# Altium schematic symbol library MCU_ST_STM32U5.SchLib: 162 symbols (part 3 of 5)
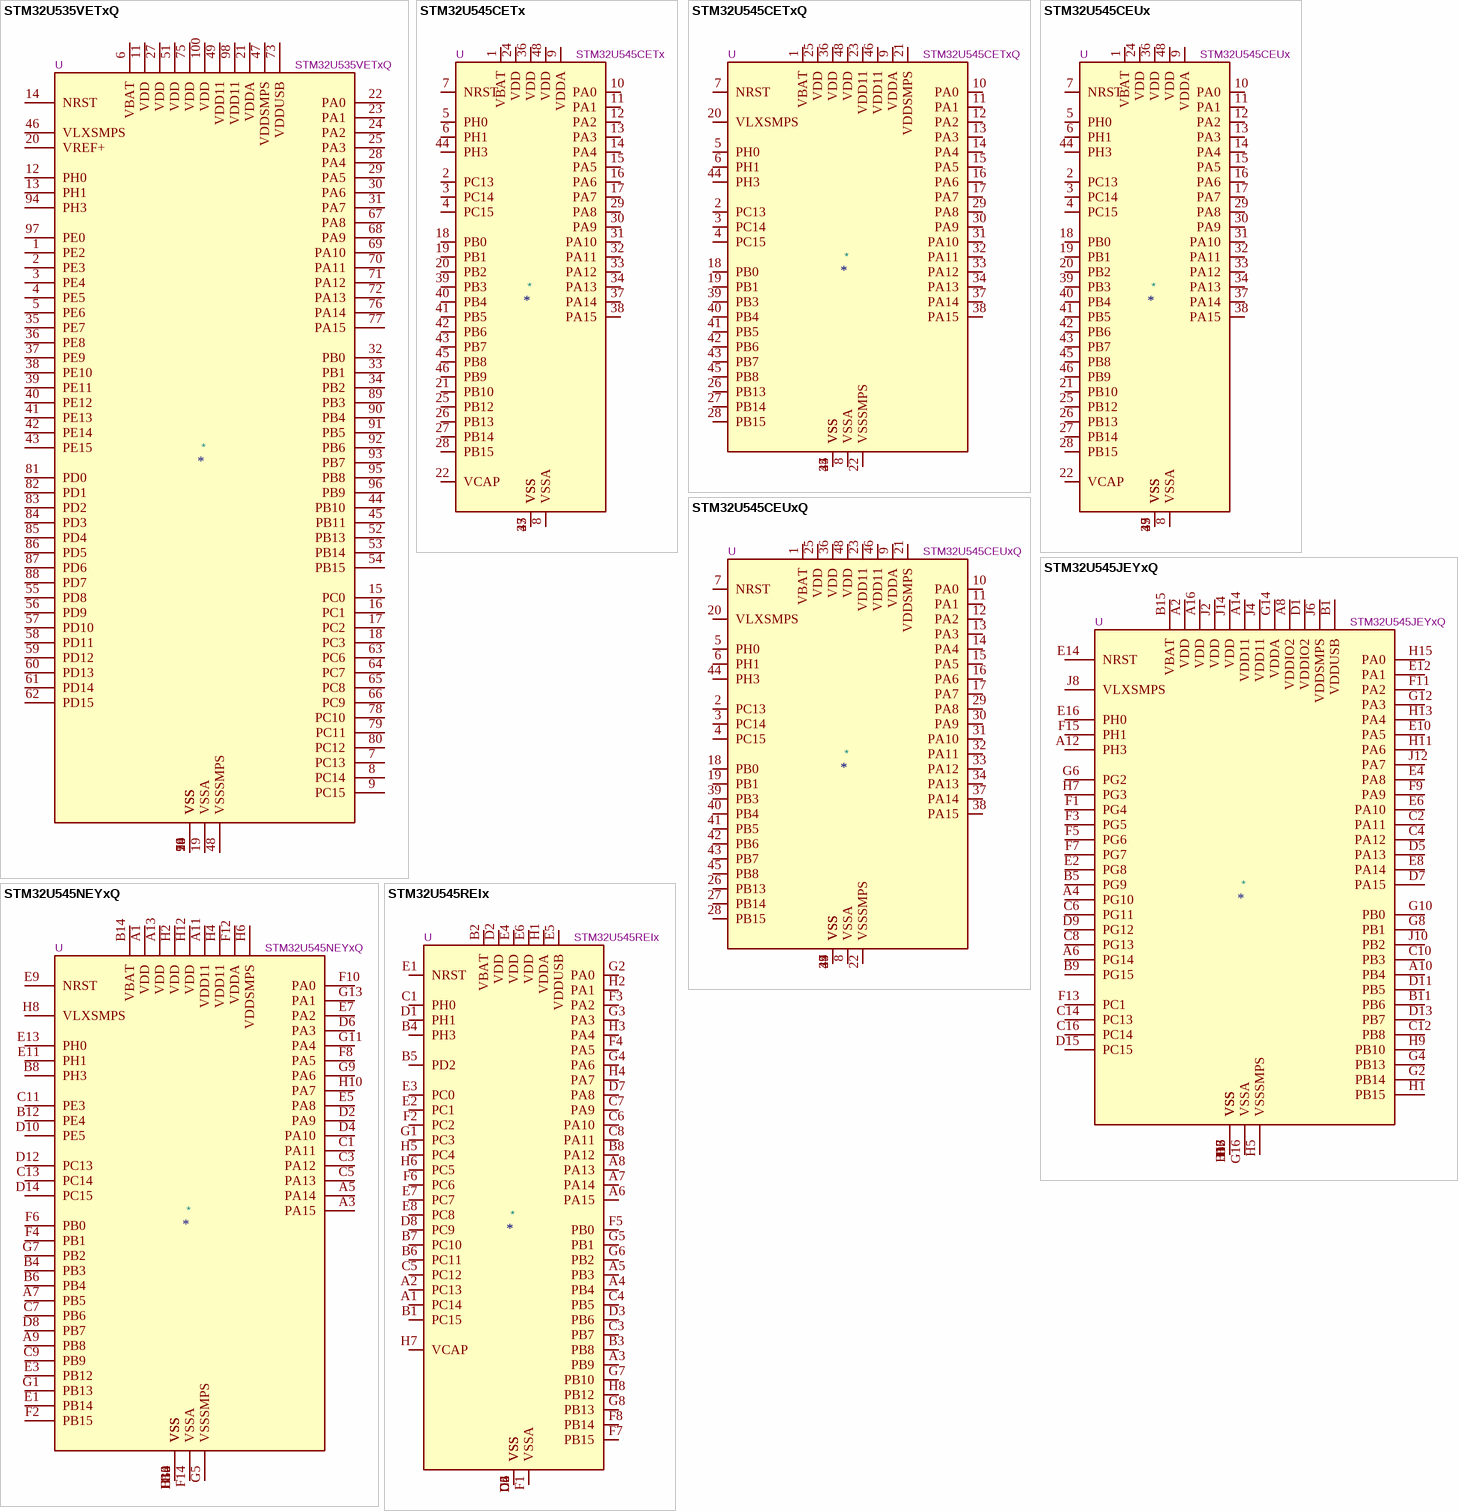
[diagram p42: symbols STM32U535VETxQ to STM32U545REIx]

## STM32U545CETxQ
designator *  value STM32U545CETxQ  Reference: U
STMicroelectronics Arm Cortex-M33 MCU, 512KB flash, 274KB RAM, 33 GPIO, LQFP48; ki_keywords: Arm Cortex-M33 STM32U5 STM32U5x5; ki_fp_filters: LQFP*7x7mm*P0.5mm*; Footprint: Package_QFP:LQFP-48_7x7mm_P0.5mm; Datasheet: https://www.st.com/resource/en/datasheet/stm32u545ce.pdf; Description_: STMicroelectronics Arm Cortex-M33 MCU, 512KB flash, 274KB RAM, 33 GPIO, LQFP48
pins: 1 VBAT, 2 PC13, 3 PC14, 4 PC15, 5 PH0, 6 PH1, 7 NRST, 8 VSSA, 9 VDDA, 10 PA0, 11 PA1, 12 PA2, 13 PA3, 14 PA4, 15 PA5, 16 PA6, 17 PA7, 18 PB0, 19 PB1, 20 VLXSMPS, 21 VDDSMPS, 22 VSSSMPS, 23 VDD11, 24 VSS, 25 VDD, 26 PB13, 27 PB14, 28 PB15, 29 PA8, 30 PA9, 31 PA10, 32 PA11, 33 PA12, 34 PA13, 35 VSS, 36 VDD, 37 PA14, 38 PA15, 39 PB3, 40 PB4, 41 PB5, 42 PB6, 43 PB7, 44 PH3, 45 PB8, 46 VDD11, 47 VSS, 48 VDD

## STM32U545CEUx
designator *  value STM32U545CEUx  Reference: U
STMicroelectronics Arm Cortex-M33 MCU, 512KB flash, 274KB RAM, 37 GPIO, UFQFPN48; ki_keywords: Arm Cortex-M33 STM32U5 STM32U5x5; ki_fp_filters: QFN*1EP*7x7mm*P0.5mm*; Footprint: Package_DFN_QFN:QFN-48-1EP_7x7mm_P0.5mm_EP5.6x5.6mm; Datasheet: https://www.st.com/resource/en/datasheet/stm32u545ce.pdf; Description_: STMicroelectronics Arm Cortex-M33 MCU, 512KB flash, 274KB RAM, 37 GPIO, UFQFPN48
pins: 1 VBAT, 2 PC13, 3 PC14, 4 PC15, 5 PH0, 6 PH1, 7 NRST, 8 VSSA, 9 VDDA, 10 PA0, 11 PA1, 12 PA2, 13 PA3, 14 PA4, 15 PA5, 16 PA6, 17 PA7, 18 PB0, 19 PB1, 20 PB2, 21 PB10, 22 VCAP, 23 VSS, 24 VDD, 25 PB12, 26 PB13, 27 PB14, 28 PB15, 29 PA8, 30 PA9, 31 PA10, 32 PA11, 33 PA12, 34 PA13, 35 VSS, 36 VDD, 37 PA14, 38 PA15, 39 PB3, 40 PB4, 41 PB5, 42 PB6, 43 PB7, 44 PH3, 45 PB8, 46 PB9, 47 VSS, 48 VDD, 49 VSS

## STM32U545CEUxQ
designator *  value STM32U545CEUxQ  Reference: U
STMicroelectronics Arm Cortex-M33 MCU, 512KB flash, 274KB RAM, 33 GPIO, UFQFPN48; ki_keywords: Arm Cortex-M33 STM32U5 STM32U5x5; ki_fp_filters: QFN*1EP*7x7mm*P0.5mm*; Footprint: Package_DFN_QFN:QFN-48-1EP_7x7mm_P0.5mm_EP5.6x5.6mm; Datasheet: https://www.st.com/resource/en/datasheet/stm32u545ce.pdf; Description_: STMicroelectronics Arm Cortex-M33 MCU, 512KB flash, 274KB RAM, 33 GPIO, UFQFPN48
pins: 1 VBAT, 2 PC13, 3 PC14, 4 PC15, 5 PH0, 6 PH1, 7 NRST, 8 VSSA, 9 VDDA, 10 PA0, 11 PA1, 12 PA2, 13 PA3, 14 PA4, 15 PA5, 16 PA6, 17 PA7, 18 PB0, 19 PB1, 20 VLXSMPS, 21 VDDSMPS, 22 VSSSMPS, 23 VDD11, 24 VSS, 25 VDD, 26 PB13, 27 PB14, 28 PB15, 29 PA8, 30 PA9, 31 PA10, 32 PA11, 33 PA12, 34 PA13, 35 VSS, 36 VDD, 37 PA14, 38 PA15, 39 PB3, 40 PB4, 41 PB5, 42 PB6, 43 PB7, 44 PH3, 45 PB8, 46 VDD11, 47 VSS, 48 VDD, 49 VSS

## STM32U545JEYxQ
designator *  value STM32U545JEYxQ  Reference: U
STMicroelectronics Arm Cortex-M33 MCU, 512KB flash, 274KB RAM, 50 GPIO, WLCSP72; ki_keywords: Arm Cortex-M33 STM32U5 STM32U5x5; ki_fp_filters: ST*WLCSP*3.38x3.38mm*Layout16x9*P0.35mm*Stagger*; Footprint: Package_CSP:ST_WLCSP-72_3.38x3.38mm_Layout16x9_P0.35mm_Stagger; Datasheet: https://www.st.com/resource/en/datasheet/stm32u545je.pdf; Description_: STMicroelectronics Arm Cortex-M33 MCU, 512KB flash, 274KB RAM, 50 GPIO, WLCSP72
pins: A2 VDD, A4 PG10, A6 PG14, A8 VDDIO2, A10 PB4, A12 PH3, A14 VDD11, A16 VDD, B1 VDDUSB, B3 VSS, B5 PG9, B7 VSS, B9 PG15, B11 PB6, B13 VSS, B15 VBAT, C2 PA11, C4 PA12, C6 PG11, C8 PG13, C10 PB3, C12 PB8, C14 PC13, C16 PC14, D1 VDDIO2, D3 VSS, D5 PA13, D7 PA15, D9 PG12, D11 PB5, D13 PB7, D15 PC15, E2 PG8, E4 PA8, E6 PA10, E8 PA14, E10 PA5, E12 PA1, E14 NRST, E16 PH0, F1 PG4, F3 PG5, F5 PG6, F7 PG7, F9 PA9, F11 PA2, F13 PC1, F15 PH1, G2 PB14, G4 PB13, G6 PG2, G8 PB1, G10 PB0, G12 PA3, G14 VDDA, G16 VSSA, H1 PB15, H3 VSS, H5 VSSSMPS, H7 PG3, H9 PB10, H11 PA6, H13 PA4, H15 PA0, J2 VDD, J4 VDD11, J6 VDDSMPS, J8 VLXSMPS, J10 PB2, J12 PA7, J14 VDD, J16 VSS

## STM32U545NEYxQ
designator *  value STM32U545NEYxQ  Reference: U
STMicroelectronics Arm Cortex-M33 MCU, 512KB flash, 274KB RAM, 39 GPIO, WLCSP56; ki_keywords: Arm Cortex-M33 STM32U5 STM32U5x5; ki_fp_filters: ST*WLCSP*3.38x3.38mm*Layout14x8*P0.4mm*Stagger*; Footprint: Package_CSP:ST_WLCSP-56_3.38x3.38mm_Layout14x8_P0.4mm_Stagger; Datasheet: https://www.st.com/resource/en/datasheet/stm32u545ne.pdf; Description_: STMicroelectronics Arm Cortex-M33 MCU, 512KB flash, 274KB RAM, 39 GPIO, WLCSP56
pins: A1 VDD, A3 PA15, A5 PA14, A7 PB5, A9 PB8, A11 VDD11, A13 VDD, B2 VSS, B4 PB3, B6 PB4, B8 PH3, B10 VSS, B12 PE4, B14 VBAT, C1 PA11, C3 PA12, C5 PA13, C7 PB6, C9 PB9, C11 PE3, C13 PC14, D2 PA9, D4 PA10, D6 PA3, D8 PB7, D10 PE5, D12 PC13, D14 PC15, E1 PB14, E3 PB12, E5 PA8, E7 PA2, E9 NRST, E11 PH1, E13 PH0, F2 PB15, F4 PB1, F6 PB0, F8 PA5, F10 PA0, F12 VDDA, F14 VSSA, G1 PB13, G3 VSS, G5 VSSSMPS, G7 PB2, G9 PA6, G11 PA4, G13 PA1, H2 VDD, H4 VDD11, H6 VDDSMPS, H8 VLXSMPS, H10 PA7, H12 VDD, H14 VSS

## STM32U545REIx
designator *  value STM32U545REIx  Reference: U
STMicroelectronics Arm Cortex-M33 MCU, 512KB flash, 274KB RAM, 51 GPIO, UFBGA64; ki_keywords: Arm Cortex-M33 STM32U5 STM32U5x5; ki_fp_filters: UFBGA*5x5mm*Layout8x8*P0.5mm*; Footprint: Package_BGA:UFBGA-64_5x5mm_Layout8x8_P0.5mm; Datasheet: https://www.st.com/resource/en/datasheet/stm32u545re.pdf; Description_: STMicroelectronics Arm Cortex-M33 MCU, 512KB flash, 274KB RAM, 51 GPIO, UFBGA64
pins: A1 PC14, A2 PC13, A3 PB9, A4 PB4, A5 PB3, A6 PA15, A7 PA14, A8 PA13, B1 PC15, B2 VBAT, B3 PB8, B4 PH3, B5 PD2, B6 PC11, B7 PC10, B8 PA12, C1 PH0, C2 VSS, C3 PB7, C4 PB5, C5 PC12, C6 PA10, C7 PA9, C8 PA11, D1 PH1, D2 VDD, D3 PB6, D4 VSS, D5 VSS, D6 VSS, D7 PA8, D8 PC9, E1 NRST, E2 PC1, E3 PC0, E4 VDD, E5 VDDUSB, E6 VDD, E7 PC7, E8 PC8, F1 VSSA, F2 PC2, F3 PA2, F4 PA5, F5 PB0, F6 PC6, F7 PB15, F8 PB14, G1 PC3, G2 PA0, G3 PA3, G4 PA6, G5 PB1, G6 PB2, G7 PB10, G8 PB13, H1 VDDA, H2 PA1, H3 PA4, H4 PA7, H5 PC4, H6 PC5, H7 VCAP, H8 PB12

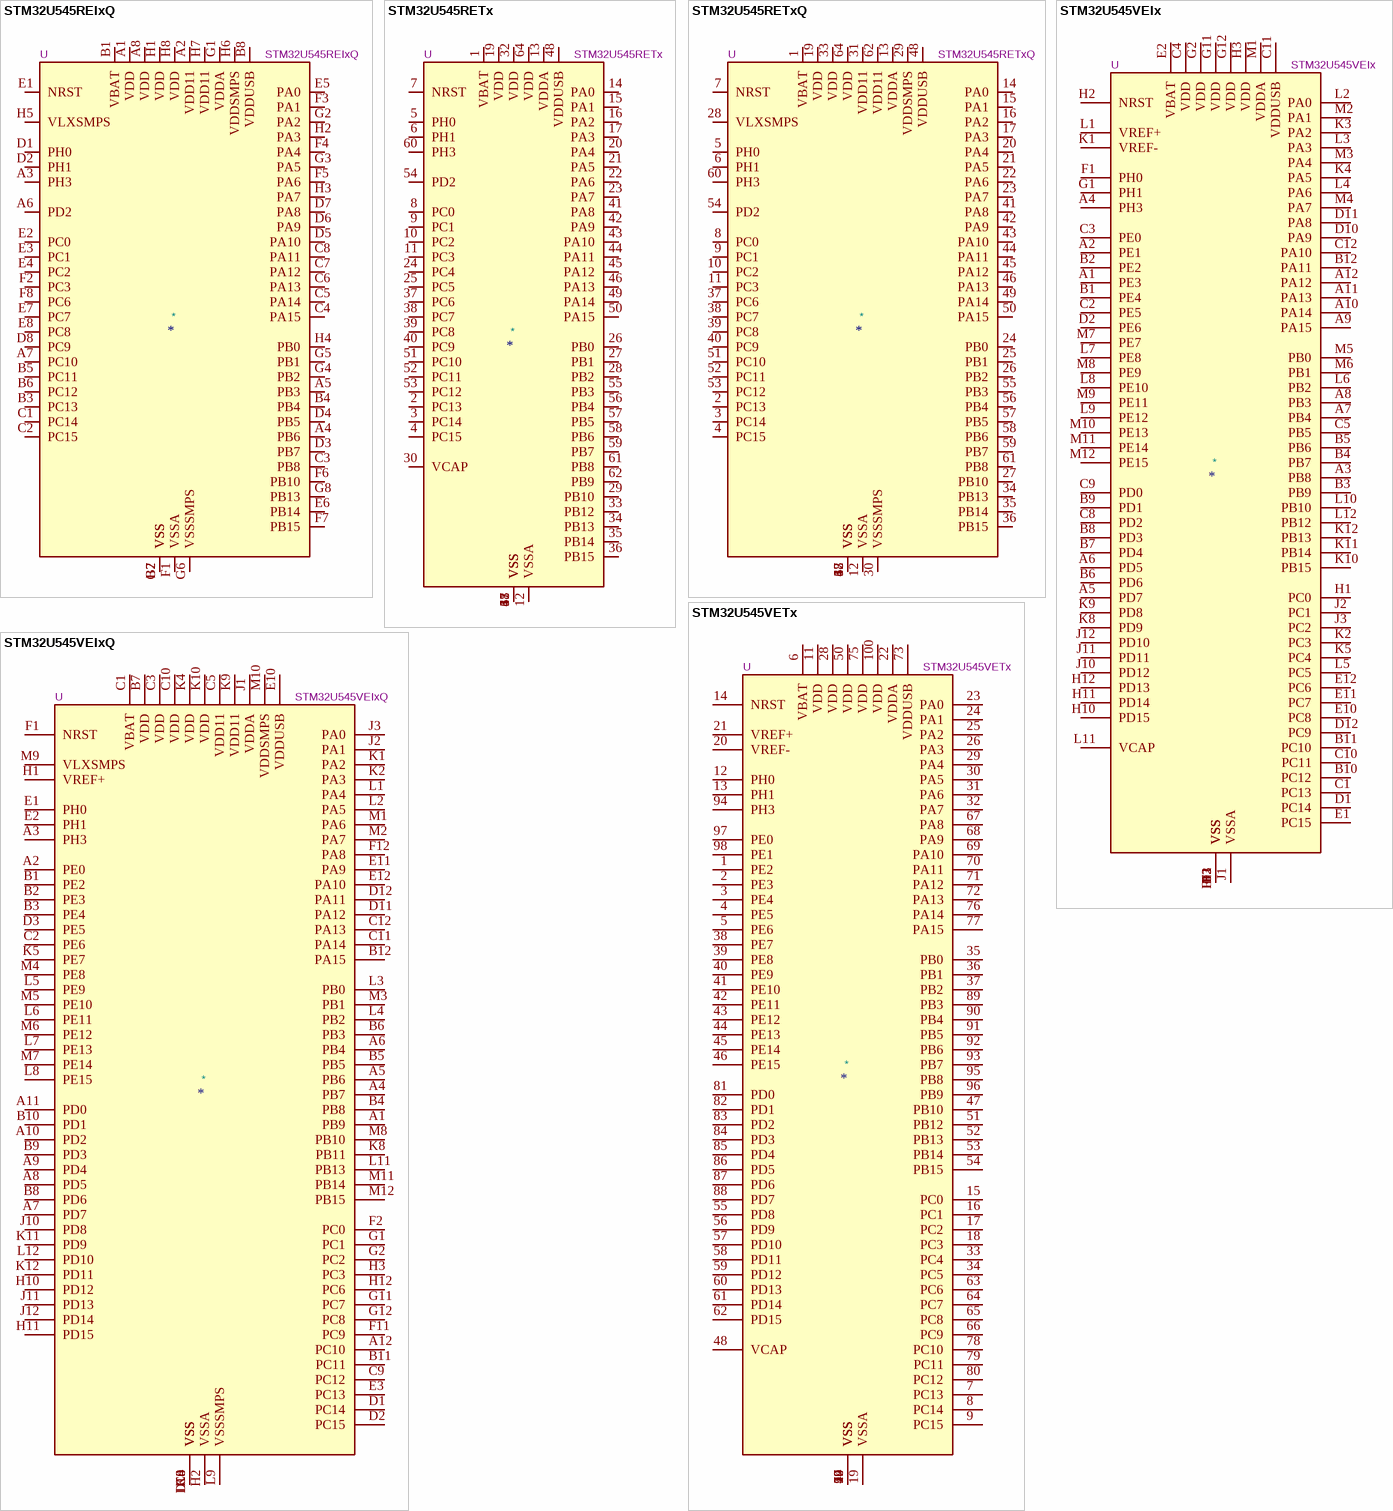
[diagram p18: symbols STM32U545REIxQ to STM32U545VETx]

## STM32U545REIxQ
designator *  value STM32U545REIxQ  Reference: U
STMicroelectronics Arm Cortex-M33 MCU, 512KB flash, 274KB RAM, 47 GPIO, UFBGA64; ki_keywords: Arm Cortex-M33 STM32U5 STM32U5x5; ki_fp_filters: UFBGA*5x5mm*Layout8x8*P0.5mm*; Footprint: Package_BGA:UFBGA-64_5x5mm_Layout8x8_P0.5mm; Datasheet: https://www.st.com/resource/en/datasheet/stm32u545re.pdf; Description_: STMicroelectronics Arm Cortex-M33 MCU, 512KB flash, 274KB RAM, 47 GPIO, UFBGA64
pins: A1 VDD, A2 VDD11, A3 PH3, A4 PB6, A5 PB3, A6 PD2, A7 PC10, A8 VDD, B1 VBAT, B2 VSS, B3 PC13, B4 PB4, B5 PC11, B6 PC12, B7 VSS, B8 VDDUSB, C1 PC14, C2 PC15, C3 PB8, C4 PA15, C5 PA14, C6 PA13, C7 PA12, C8 PA11, D1 PH0, D2 PH1, D3 PB7, D4 PB5, D5 PA10, D6 PA9, D7 PA8, D8 PC9, E1 NRST, E2 PC0, E3 PC1, E4 PC2, E5 PA0, E6 PB14, E7 PC7, E8 PC8, F1 VSSA, F2 PC3, F3 PA1, F4 PA4, F5 PA6, F6 PB10, F7 PB15, F8 PC6, G1 VDDA, G2 PA2, G3 PA5, G4 PB2, G5 PB1, G6 VSSSMPS, G7 VSS, G8 PB13, H1 VDD, H2 PA3, H3 PA7, H4 PB0, H5 VLXSMPS, H6 VDDSMPS, H7 VDD11, H8 VDD

## STM32U545RETx
designator *  value STM32U545RETx  Reference: U
STMicroelectronics Arm Cortex-M33 MCU, 512KB flash, 274KB RAM, 51 GPIO, LQFP64; ki_keywords: Arm Cortex-M33 STM32U5 STM32U5x5; ki_fp_filters: LQFP*10x10mm*P0.5mm*; Footprint: Package_QFP:LQFP-64_10x10mm_P0.5mm; Datasheet: https://www.st.com/resource/en/datasheet/stm32u545re.pdf; Description_: STMicroelectronics Arm Cortex-M33 MCU, 512KB flash, 274KB RAM, 51 GPIO, LQFP64
pins: 1 VBAT, 2 PC13, 3 PC14, 4 PC15, 5 PH0, 6 PH1, 7 NRST, 8 PC0, 9 PC1, 10 PC2, 11 PC3, 12 VSSA, 13 VDDA, 14 PA0, 15 PA1, 16 PA2, 17 PA3, 18 VSS, 19 VDD, 20 PA4, 21 PA5, 22 PA6, 23 PA7, 24 PC4, 25 PC5, 26 PB0, 27 PB1, 28 PB2, 29 PB10, 30 VCAP, 31 VSS, 32 VDD, 33 PB12, 34 PB13, 35 PB14, 36 PB15, 37 PC6, 38 PC7, 39 PC8, 40 PC9, 41 PA8, 42 PA9, 43 PA10, 44 PA11, 45 PA12, 46 PA13, 47 VSS, 48 VDDUSB, 49 PA14, 50 PA15, 51 PC10, 52 PC11, 53 PC12, 54 PD2, 55 PB3, 56 PB4, 57 PB5, 58 PB6, 59 PB7, 60 PH3, 61 PB8, 62 PB9, 63 VSS, 64 VDD

## STM32U545RETxQ
designator *  value STM32U545RETxQ  Reference: U
STMicroelectronics Arm Cortex-M33 MCU, 512KB flash, 274KB RAM, 47 GPIO, LQFP64; ki_keywords: Arm Cortex-M33 STM32U5 STM32U5x5; ki_fp_filters: LQFP*10x10mm*P0.5mm*; Footprint: Package_QFP:LQFP-64_10x10mm_P0.5mm; Datasheet: https://www.st.com/resource/en/datasheet/stm32u545re.pdf; Description_: STMicroelectronics Arm Cortex-M33 MCU, 512KB flash, 274KB RAM, 47 GPIO, LQFP64
pins: 1 VBAT, 2 PC13, 3 PC14, 4 PC15, 5 PH0, 6 PH1, 7 NRST, 8 PC0, 9 PC1, 10 PC2, 11 PC3, 12 VSSA, 13 VDDA, 14 PA0, 15 PA1, 16 PA2, 17 PA3, 18 VSS, 19 VDD, 20 PA4, 21 PA5, 22 PA6, 23 PA7, 24 PB0, 25 PB1, 26 PB2, 27 PB10, 28 VLXSMPS, 29 VDDSMPS, 30 VSSSMPS, 31 VDD11, 32 VSS, 33 VDD, 34 PB13, 35 PB14, 36 PB15, 37 PC6, 38 PC7, 39 PC8, 40 PC9, 41 PA8, 42 PA9, 43 PA10, 44 PA11, 45 PA12, 46 PA13, 47 VSS, 48 VDDUSB, 49 PA14, 50 PA15, 51 PC10, 52 PC11, 53 PC12, 54 PD2, 55 PB3, 56 PB4, 57 PB5, 58 PB6, 59 PB7, 60 PH3, 61 PB8, 62 VDD11, 63 VSS, 64 VDD

## STM32U545VEIx
designator *  value STM32U545VEIx  Reference: U
STMicroelectronics Arm Cortex-M33 MCU, 512KB flash, 274KB RAM, 82 GPIO, UFBGA100; ki_keywords: Arm Cortex-M33 STM32U5 STM32U5x5; ki_fp_filters: UFBGA*7x7mm*Layout12x12*P0.5mm*; Footprint: Package_BGA:UFBGA-100_7x7mm_Layout12x12_P0.5mm; Datasheet: https://www.st.com/resource/en/datasheet/stm32u545ve.pdf; Description_: STMicroelectronics Arm Cortex-M33 MCU, 512KB flash, 274KB RAM, 82 GPIO, UFBGA100
pins: A1 PE3, A2 PE1, A3 PB8, A4 PH3, A5 PD7, A6 PD5, A7 PB4, A8 PB3, A9 PA15, A10 PA14, A11 PA13, A12 PA12, B1 PE4, B2 PE2, B3 PB9, B4 PB7, B5 PB6, B6 PD6, B7 PD4, B8 PD3, B9 PD1, B10 PC12, B11 PC10, B12 PA11, C1 PC13, C2 PE5, C3 PE0, C4 VDD, C5 PB5, C8 PD2, C9 PD0, C10 PC11, C11 VDDUSB, C12 PA10, D1 PC14, D2 PE6, D3 VSS, D10 PA9, D11 PA8, D12 PC9, E1 PC15, E2 VBAT, E3 VSS, E10 PC8, E11 PC7, E12 PC6, F1 PH0, F2 VSS, F11 VSS, F12 VSS, G1 PH1, G2 VDD, G11 VDD, G12 VDD, H1 PC0, H2 NRST, H3 VDD, H10 PD15, H11 PD14, H12 PD13, J1 VSSA, J2 PC1, J3 PC2, J10 PD12, J11 PD11, J12 PD10, K1 VREF-, K2 PC3, K3 PA2, K4 PA5, K5 PC4, K8 PD9, K9 PD8, K10 PB15, K11 PB14, K12 PB13, L1 VREF+, L2 PA0, L3 PA3, L4 PA6, L5 PC5, L6 PB2, L7 PE8, L8 PE10, L9 PE12, L10 PB10, L11 VCAP, L12 PB12, M1 VDDA, M2 PA1, M3 PA4, M4 PA7, M5 PB0, M6 PB1, M7 PE7, M8 PE9, M9 PE11, M10 PE13, M11 PE14, M12 PE15

## STM32U545VEIxQ
designator *  value STM32U545VEIxQ  Reference: U
STMicroelectronics Arm Cortex-M33 MCU, 512KB flash, 274KB RAM, 79 GPIO, UFBGA100; ki_keywords: Arm Cortex-M33 STM32U5 STM32U5x5; ki_fp_filters: UFBGA*7x7mm*Layout12x12*P0.5mm*; Footprint: Package_BGA:UFBGA-100_7x7mm_Layout12x12_P0.5mm; Datasheet: https://www.st.com/resource/en/datasheet/stm32u545ve.pdf; Description_: STMicroelectronics Arm Cortex-M33 MCU, 512KB flash, 274KB RAM, 79 GPIO, UFBGA100
pins: A1 PB9, A2 PE0, A3 PH3, A4 PB7, A5 PB6, A6 PB4, A7 PD7, A8 PD5, A9 PD4, A10 PD2, A11 PD0, A12 PC10, B1 PE2, B2 PE3, B3 PE4, B4 PB8, B5 PB5, B6 PB3, B7 VDD, B8 PD6, B9 PD3, B10 PD1, B11 PC11, B12 PA15, C1 VBAT, C2 PE6, C3 VDD, C4 VSS, C5 VDD11, C8 VSS, C9 PC12, C10 VDD, C11 PA14, C12 PA13, D1 PC14, D2 PC15, D3 PE5, D10 VSS, D11 PA12, D12 PA11, E1 PH0, E2 PH1, E3 PC13, E10 VDDUSB, E11 PA9, E12 PA10, F1 NRST, F2 PC0, F11 PC9, F12 PA8, G1 PC1, G2 PC2, G11 PC7, G12 PC8, H1 VREF+, H2 VSSA, H3 PC3, H10 PD12, H11 PD15, H12 PC6, J1 VDDA, J2 PA1, J3 PA0, J10 PD8, J11 PD13, J12 PD14, K1 PA2, K2 PA3, K3 VSS, K4 VDD, K5 PE7, K8 PB11, K9 VDD11, K10 VDD, K11 PD9, K12 PD11, L1 PA4, L2 PA5, L3 PB0, L4 PB2, L5 PE9, L6 PE11, L7 PE13, L8 PE15, L9 VSSSMPS, L10 VSS, L11 PB13, L12 PD10, M1 PA6, M2 PA7, M3 PB1, M4 PE8, M5 PE10, M6 PE12, M7 PE14, M8 PB10, M9 VLXSMPS, M10 VDDSMPS, M11 PB14, M12 PB15

## STM32U545VETx
designator *  value STM32U545VETx  Reference: U
STMicroelectronics Arm Cortex-M33 MCU, 512KB flash, 274KB RAM, 82 GPIO, LQFP100; ki_keywords: Arm Cortex-M33 STM32U5 STM32U5x5; ki_fp_filters: LQFP*14x14mm*P0.5mm*; Footprint: Package_QFP:LQFP-100_14x14mm_P0.5mm; Datasheet: https://www.st.com/resource/en/datasheet/stm32u545ve.pdf; Description_: STMicroelectronics Arm Cortex-M33 MCU, 512KB flash, 274KB RAM, 82 GPIO, LQFP100
pins: 1 PE2, 2 PE3, 3 PE4, 4 PE5, 5 PE6, 6 VBAT, 7 PC13, 8 PC14, 9 PC15, 10 VSS, 11 VDD, 12 PH0, 13 PH1, 14 NRST, 15 PC0, 16 PC1, 17 PC2, 18 PC3, 19 VSSA, 20 VREF-, 21 VREF+, 22 VDDA, 23 PA0, 24 PA1, 25 PA2, 26 PA3, 27 VSS, 28 VDD, 29 PA4, 30 PA5, 31 PA6, 32 PA7, 33 PC4, 34 PC5, 35 PB0, 36 PB1, 37 PB2, 38 PE7, 39 PE8, 40 PE9, 41 PE10, 42 PE11, 43 PE12, 44 PE13, 45 PE14, 46 PE15, 47 PB10, 48 VCAP, 49 VSS, 50 VDD, 51 PB12, 52 PB13, 53 PB14, 54 PB15, 55 PD8, 56 PD9, 57 PD10, 58 PD11, 59 PD12, 60 PD13, 61 PD14, 62 PD15, 63 PC6, 64 PC7, 65 PC8, 66 PC9, 67 PA8, 68 PA9, 69 PA10, 70 PA11, 71 PA12, 72 PA13, 73 VDDUSB, 74 VSS, 75 VDD, 76 PA14, 77 PA15, 78 PC10, 79 PC11, 80 PC12, 81 PD0, 82 PD1, 83 PD2, 84 PD3, 85 PD4, 86 PD5, 87 PD6, 88 PD7, 89 PB3, 90 PB4, 91 PB5, 92 PB6, 93 PB7, 94 PH3, 95 PB8, 96 PB9, 97 PE0, 98 PE1, 99 VSS, 100 VDD

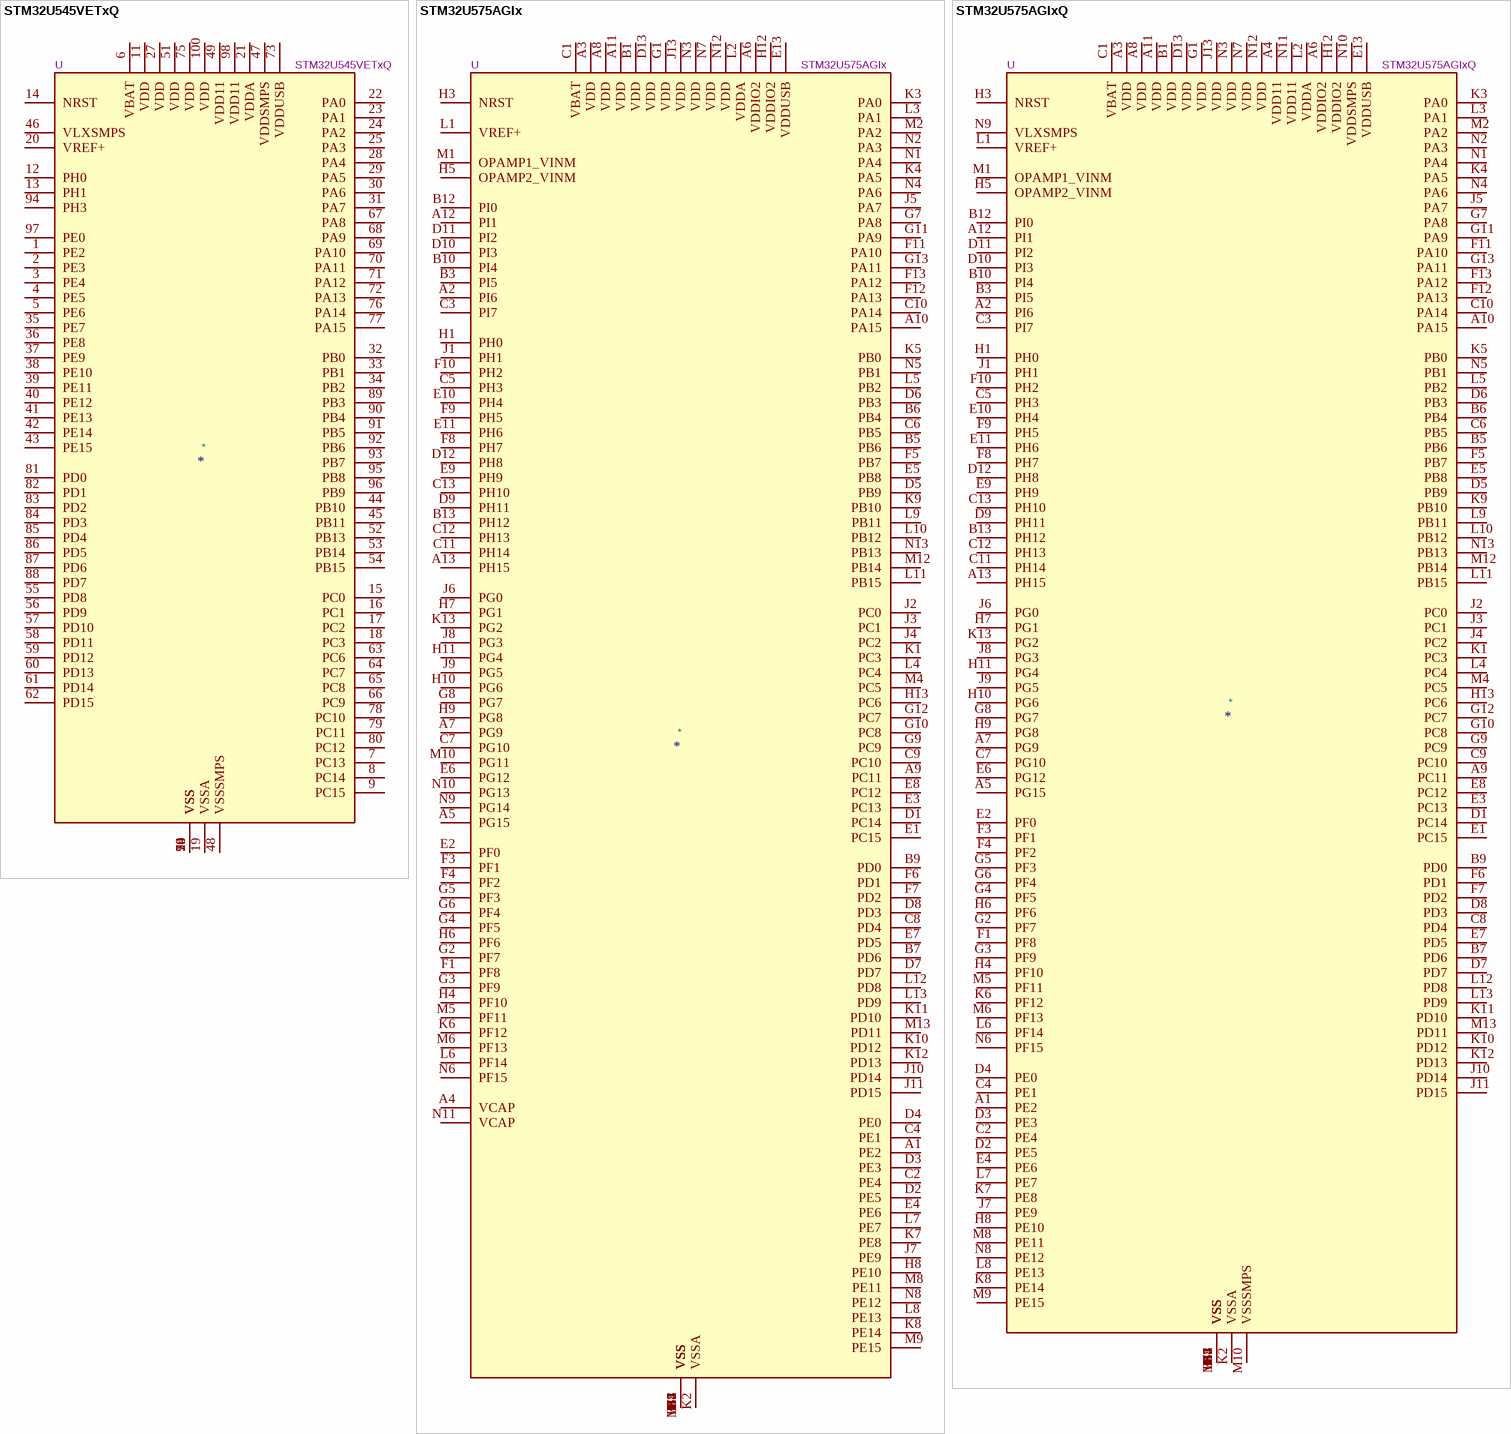
[diagram p19: symbols STM32U545VETxQ to STM32U575AGIxQ]

## STM32U545VETxQ
designator *  value STM32U545VETxQ  Reference: U
STMicroelectronics Arm Cortex-M33 MCU, 512KB flash, 274KB RAM, 79 GPIO, LQFP100; ki_keywords: Arm Cortex-M33 STM32U5 STM32U5x5; ki_fp_filters: LQFP*14x14mm*P0.5mm*; Footprint: Package_QFP:LQFP-100_14x14mm_P0.5mm; Datasheet: https://www.st.com/resource/en/datasheet/stm32u545ve.pdf; Description_: STMicroelectronics Arm Cortex-M33 MCU, 512KB flash, 274KB RAM, 79 GPIO, LQFP100
pins: 1 PE2, 2 PE3, 3 PE4, 4 PE5, 5 PE6, 6 VBAT, 7 PC13, 8 PC14, 9 PC15, 10 VSS, 11 VDD, 12 PH0, 13 PH1, 14 NRST, 15 PC0, 16 PC1, 17 PC2, 18 PC3, 19 VSSA, 20 VREF+, 21 VDDA, 22 PA0, 23 PA1, 24 PA2, 25 PA3, 26 VSS, 27 VDD, 28 PA4, 29 PA5, 30 PA6, 31 PA7, 32 PB0, 33 PB1, 34 PB2, 35 PE7, 36 PE8, 37 PE9, 38 PE10, 39 PE11, 40 PE12, 41 PE13, 42 PE14, 43 PE15, 44 PB10, 45 PB11, 46 VLXSMPS, 47 VDDSMPS, 48 VSSSMPS, 49 VDD11, 50 VSS, 51 VDD, 52 PB13, 53 PB14, 54 PB15, 55 PD8, 56 PD9, 57 PD10, 58 PD11, 59 PD12, 60 PD13, 61 PD14, 62 PD15, 63 PC6, 64 PC7, 65 PC8, 66 PC9, 67 PA8, 68 PA9, 69 PA10, 70 PA11, 71 PA12, 72 PA13, 73 VDDUSB, 74 VSS, 75 VDD, 76 PA14, 77 PA15, 78 PC10, 79 PC11, 80 PC12, 81 PD0, 82 PD1, 83 PD2, 84 PD3, 85 PD4, 86 PD5, 87 PD6, 88 PD7, 89 PB3, 90 PB4, 91 PB5, 92 PB6, 93 PB7, 94 PH3, 95 PB8, 96 PB9, 97 PE0, 98 VDD11, 99 VSS, 100 VDD

## STM32U575AGIx
designator *  value STM32U575AGIx  Reference: U
STMicroelectronics Arm Cortex-M33 MCU, 1024KB flash, 786KB RAM, 160 MHz, 1.71-3.6V, 136 GPIO, UFBGA169; ki_keywords: Arm Cortex-M33 STM32U5 STM32U575/585; ki_fp_filters: UFBGA*7x7mm*Layout13x13*P0.5mm*; Footprint: Package_BGA:UFBGA-169_7x7mm_Layout13x13_P0.5mm; Datasheet: https://www.st.com/resource/en/datasheet/stm32u575ag.pdf; Description_: STMicroelectronics Arm Cortex-M33 MCU, 1024KB flash, 786KB RAM, 160 MHz, 1.71-3.6V, 136 GPIO, UFBGA169
pins: A1 PE2, A2 PI6, A3 VDD, A4 VCAP, A5 PG15, A6 VDDIO2, A7 PG9, A8 VDD, A9 PC11, A10 PA15, A11 VDD, A12 PI1, A13 PH15, B1 VDD, B2 VSS, B3 PI5, B4 VSS, B5 PB6, B6 PB4, B7 PD6, B8 VSS, B9 PD0, B10 PI4, B11 VSS, B12 PI0, B13 PH12, C1 VBAT, C2 PE4, C3 PI7, C4 PE1, C5 PH3, C6 PB5, C7 PG10, C8 PD4, C9 PC10, C10 PA14, C11 PH14, C12 PH13, C13 PH10, D1 PC14, D2 PE5, D3 PE3, D4 PE0, D5 PB9, D6 PB3, D7 PD7, D8 PD3, D9 PH11, D10 PI3, D11 PI2, D12 PH8, D13 VDD, E1 PC15, E2 PF0, E3 PC13, E4 PE6, E5 PB8, E6 PG12, E7 PD5, E8 PC12, E9 PH9, E10 PH4, E11 PH6, E12 VSS, E13 VDDUSB, F1 PF8, F2 VSS, F3 PF1, F4 PF2, F5 PB7, F6 PD1, F7 PD2, F8 PH7, F9 PH5, F10 PH2, F11 PA10, F12 PA13, F13 PA12, G1 VDD, G2 PF7, G3 PF9, G4 PF5, G5 PF3, G6 PF4, G7 PA8, G8 PG7, G9 PC9, G10 PC8, G11 PA9, G12 PC7, G13 PA11, H1 PH0, H2 VSS, H3 NRST, H4 PF10, H5 OPAMP2_VINM, H6 PF6, H7 PG1, H8 PE10, H9 PG8, H10 PG6, H11 PG4, H12 VDDIO2, H13 PC6, J1 PH1, J2 PC0, J3 PC1, J4 PC2, J5 PA7, J6 PG0, J7 PE9, J8 PG3, J9 PG5, J10 PD14, J11 PD15, J12 VSS, J13 VDD, K1 PC3, K2 VSSA, K3 PA0, K4 PA5, K5 PB0, K6 PF12, K7 PE8, K8 PE14, K9 PB10, K10 PD12, K11 PD10, K12 PD13, K13 PG2, L1 VREF+, L2 VDDA, L3 PA1, L4 PC4, L5 PB2, L6 PF14, L7 PE7, L8 PE13, L9 PB11, L10 PB12, L11 PB15, L12 PD8, L13 PD9, M1 OPAMP1_VINM, M2 PA2, M3 VSS, M4 PC5, M5 PF11, M6 PF13, M7 VSS, M8 PE11, M9 PE15, M10 PG11, M11 VSS, M12 PB14, M13 PD11, N1 PA4, N2 PA3, N3 VDD, N4 PA6, N5 PB1, N6 PF15, N7 VDD, N8 PE12, N9 PG14, N10 PG13, N11 VCAP, N12 VDD, N13 PB13

## STM32U575AGIxQ
designator *  value STM32U575AGIxQ  Reference: U
STMicroelectronics Arm Cortex-M33 MCU, 1024KB flash, 786KB RAM, 160 MHz, 1.71-3.6V, 133 GPIO, UFBGA169; ki_keywords: Arm Cortex-M33 STM32U5 STM32U575/585; ki_fp_filters: UFBGA*7x7mm*Layout13x13*P0.5mm*; Footprint: Package_BGA:UFBGA-169_7x7mm_Layout13x13_P0.5mm; Datasheet: https://www.st.com/resource/en/datasheet/stm32u575ag.pdf; Description_: STMicroelectronics Arm Cortex-M33 MCU, 1024KB flash, 786KB RAM, 160 MHz, 1.71-3.6V, 133 GPIO, UFBGA169
pins: A1 PE2, A2 PI6, A3 VDD, A4 VDD11, A5 PG15, A6 VDDIO2, A7 PG9, A8 VDD, A9 PC11, A10 PA15, A11 VDD, A12 PI1, A13 PH15, B1 VDD, B2 VSS, B3 PI5, B4 VSS, B5 PB6, B6 PB4, B7 PD6, B8 VSS, B9 PD0, B10 PI4, B11 VSS, B12 PI0, B13 PH12, C1 VBAT, C2 PE4, C3 PI7, C4 PE1, C5 PH3, C6 PB5, C7 PG10, C8 PD4, C9 PC10, C10 PA14, C11 PH14, C12 PH13, C13 PH10, D1 PC14, D2 PE5, D3 PE3, D4 PE0, D5 PB9, D6 PB3, D7 PD7, D8 PD3, D9 PH11, D10 PI3, D11 PI2, D12 PH8, D13 VDD, E1 PC15, E2 PF0, E3 PC13, E4 PE6, E5 PB8, E6 PG12, E7 PD5, E8 PC12, E9 PH9, E10 PH4, E11 PH6, E12 VSS, E13 VDDUSB, F1 PF8, F2 VSS, F3 PF1, F4 PF2, F5 PB7, F6 PD1, F7 PD2, F8 PH7, F9 PH5, F10 PH2, F11 PA10, F12 PA13, F13 PA12, G1 VDD, G2 PF7, G3 PF9, G4 PF5, G5 PF3, G6 PF4, G7 PA8, G8 PG7, G9 PC9, G10 PC8, G11 PA9, G12 PC7, G13 PA11, H1 PH0, H2 VSS, H3 NRST, H4 PF10, H5 OPAMP2_VINM, H6 PF6, H7 PG1, H8 PE10, H9 PG8, H10 PG6, H11 PG4, H12 VDDIO2, H13 PC6, J1 PH1, J2 PC0, J3 PC1, J4 PC2, J5 PA7, J6 PG0, J7 PE9, J8 PG3, J9 PG5, J10 PD14, J11 PD15, J12 VSS, J13 VDD, K1 PC3, K2 VSSA, K3 PA0, K4 PA5, K5 PB0, K6 PF12, K7 PE8, K8 PE14, K9 PB10, K10 PD12, K11 PD10, K12 PD13, K13 PG2, L1 VREF+, L2 VDDA, L3 PA1, L4 PC4, L5 PB2, L6 PF14, L7 PE7, L8 PE13, L9 PB11, L10 PB12, L11 PB15, L12 PD8, L13 PD9, M1 OPAMP1_VINM, M2 PA2, M3 VSS, M4 PC5, M5 PF11, M6 PF13, M7 VSS, M8 PE11, M9 PE15, M10 VSSSMPS, M11 VSS, M12 PB14, M13 PD11, N1 PA4, N2 PA3, N3 VDD, N4 PA6, N5 PB1, N6 PF15, N7 VDD, N8 PE12, N9 VLXSMPS, N10 VDDSMPS, N11 VDD11, N12 VDD, N13 PB13

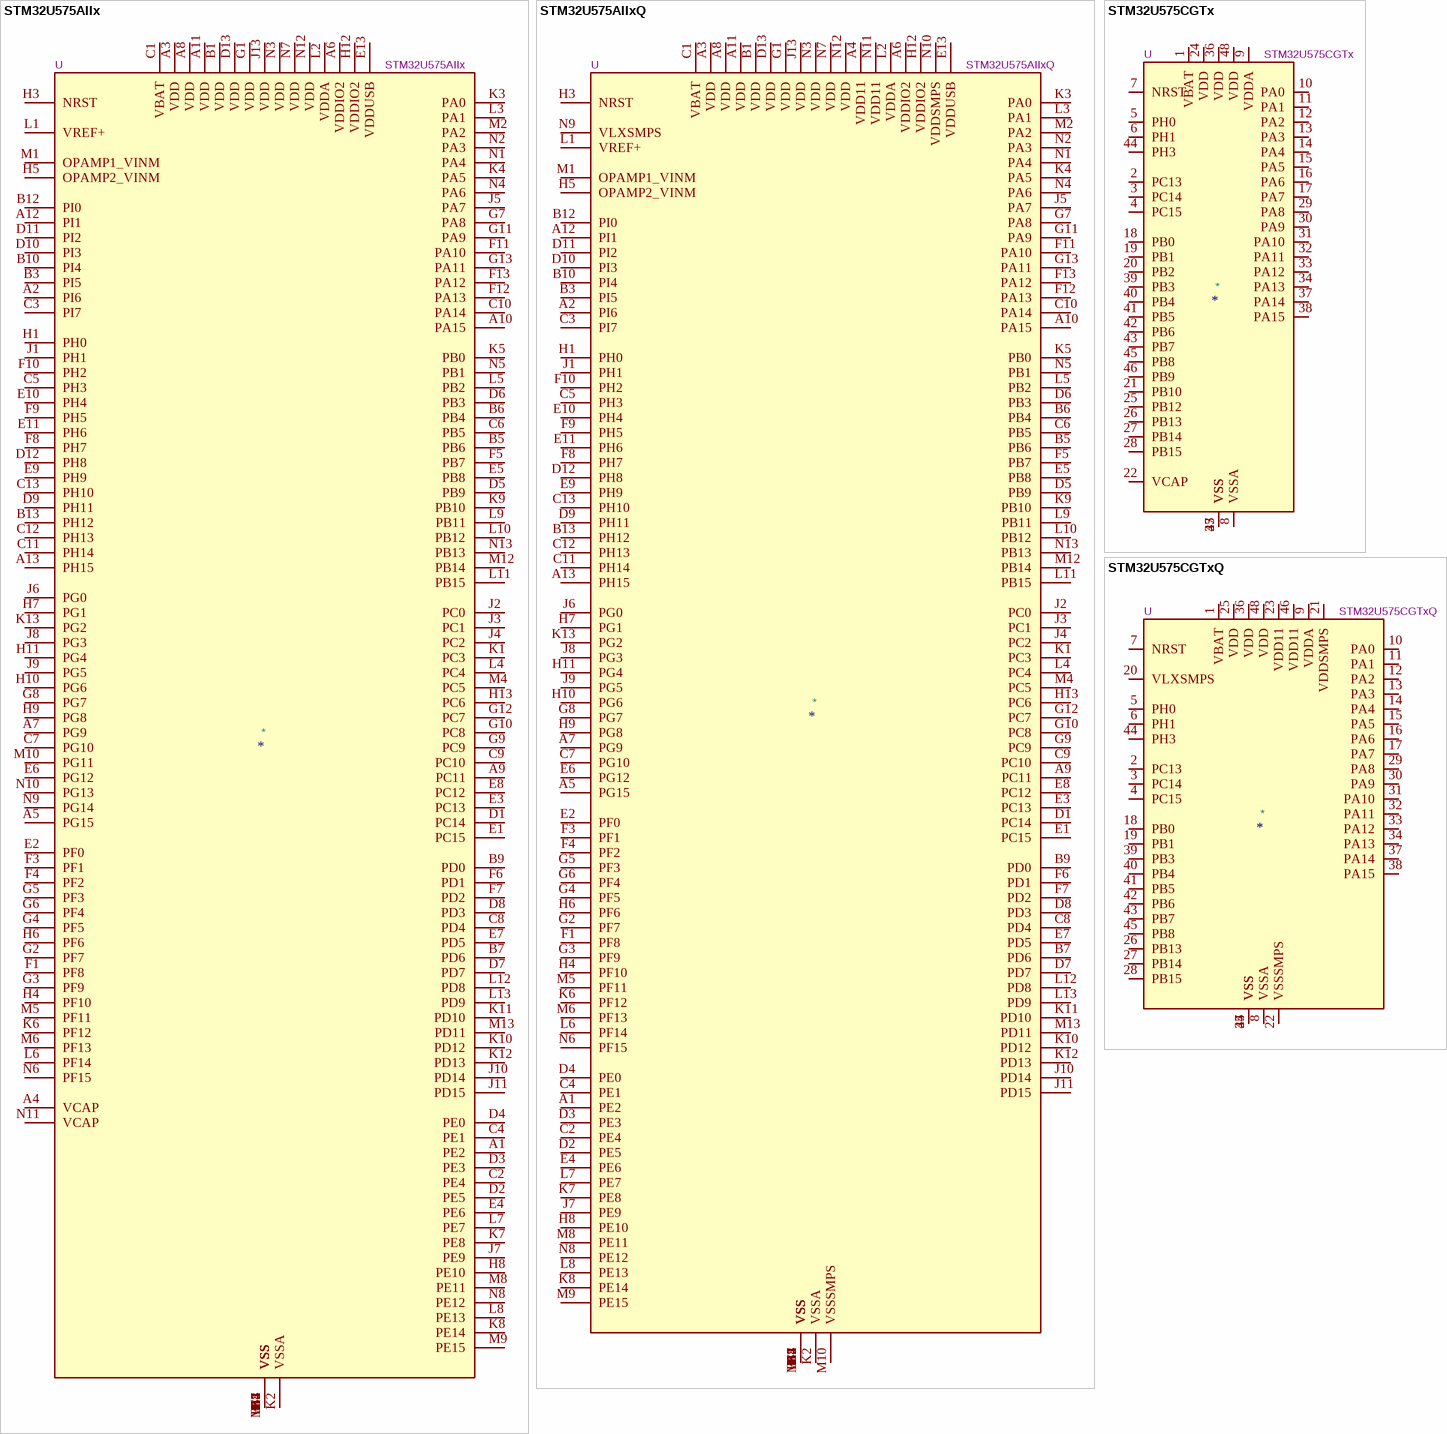
[diagram p20: symbols STM32U575AIIx to STM32U575CGTxQ]

## STM32U575AIIx
designator *  value STM32U575AIIx  Reference: U
STMicroelectronics Arm Cortex-M33 MCU, 2048KB flash, 786KB RAM, 160 MHz, 1.71-3.6V, 136 GPIO, UFBGA169; ki_keywords: Arm Cortex-M33 STM32U5 STM32U575/585; ki_fp_filters: UFBGA*7x7mm*Layout13x13*P0.5mm*; Footprint: Package_BGA:UFBGA-169_7x7mm_Layout13x13_P0.5mm; Datasheet: https://www.st.com/resource/en/datasheet/stm32u575ai.pdf; Description_: STMicroelectronics Arm Cortex-M33 MCU, 2048KB flash, 786KB RAM, 160 MHz, 1.71-3.6V, 136 GPIO, UFBGA169
pins: A1 PE2, A2 PI6, A3 VDD, A4 VCAP, A5 PG15, A6 VDDIO2, A7 PG9, A8 VDD, A9 PC11, A10 PA15, A11 VDD, A12 PI1, A13 PH15, B1 VDD, B2 VSS, B3 PI5, B4 VSS, B5 PB6, B6 PB4, B7 PD6, B8 VSS, B9 PD0, B10 PI4, B11 VSS, B12 PI0, B13 PH12, C1 VBAT, C2 PE4, C3 PI7, C4 PE1, C5 PH3, C6 PB5, C7 PG10, C8 PD4, C9 PC10, C10 PA14, C11 PH14, C12 PH13, C13 PH10, D1 PC14, D2 PE5, D3 PE3, D4 PE0, D5 PB9, D6 PB3, D7 PD7, D8 PD3, D9 PH11, D10 PI3, D11 PI2, D12 PH8, D13 VDD, E1 PC15, E2 PF0, E3 PC13, E4 PE6, E5 PB8, E6 PG12, E7 PD5, E8 PC12, E9 PH9, E10 PH4, E11 PH6, E12 VSS, E13 VDDUSB, F1 PF8, F2 VSS, F3 PF1, F4 PF2, F5 PB7, F6 PD1, F7 PD2, F8 PH7, F9 PH5, F10 PH2, F11 PA10, F12 PA13, F13 PA12, G1 VDD, G2 PF7, G3 PF9, G4 PF5, G5 PF3, G6 PF4, G7 PA8, G8 PG7, G9 PC9, G10 PC8, G11 PA9, G12 PC7, G13 PA11, H1 PH0, H2 VSS, H3 NRST, H4 PF10, H5 OPAMP2_VINM, H6 PF6, H7 PG1, H8 PE10, H9 PG8, H10 PG6, H11 PG4, H12 VDDIO2, H13 PC6, J1 PH1, J2 PC0, J3 PC1, J4 PC2, J5 PA7, J6 PG0, J7 PE9, J8 PG3, J9 PG5, J10 PD14, J11 PD15, J12 VSS, J13 VDD, K1 PC3, K2 VSSA, K3 PA0, K4 PA5, K5 PB0, K6 PF12, K7 PE8, K8 PE14, K9 PB10, K10 PD12, K11 PD10, K12 PD13, K13 PG2, L1 VREF+, L2 VDDA, L3 PA1, L4 PC4, L5 PB2, L6 PF14, L7 PE7, L8 PE13, L9 PB11, L10 PB12, L11 PB15, L12 PD8, L13 PD9, M1 OPAMP1_VINM, M2 PA2, M3 VSS, M4 PC5, M5 PF11, M6 PF13, M7 VSS, M8 PE11, M9 PE15, M10 PG11, M11 VSS, M12 PB14, M13 PD11, N1 PA4, N2 PA3, N3 VDD, N4 PA6, N5 PB1, N6 PF15, N7 VDD, N8 PE12, N9 PG14, N10 PG13, N11 VCAP, N12 VDD, N13 PB13

## STM32U575AIIxQ
designator *  value STM32U575AIIxQ  Reference: U
STMicroelectronics Arm Cortex-M33 MCU, 2048KB flash, 786KB RAM, 160 MHz, 1.71-3.6V, 133 GPIO, UFBGA169; ki_keywords: Arm Cortex-M33 STM32U5 STM32U575/585; ki_fp_filters: UFBGA*7x7mm*Layout13x13*P0.5mm*; Footprint: Package_BGA:UFBGA-169_7x7mm_Layout13x13_P0.5mm; Datasheet: https://www.st.com/resource/en/datasheet/stm32u575ai.pdf; Description_: STMicroelectronics Arm Cortex-M33 MCU, 2048KB flash, 786KB RAM, 160 MHz, 1.71-3.6V, 133 GPIO, UFBGA169
pins: A1 PE2, A2 PI6, A3 VDD, A4 VDD11, A5 PG15, A6 VDDIO2, A7 PG9, A8 VDD, A9 PC11, A10 PA15, A11 VDD, A12 PI1, A13 PH15, B1 VDD, B2 VSS, B3 PI5, B4 VSS, B5 PB6, B6 PB4, B7 PD6, B8 VSS, B9 PD0, B10 PI4, B11 VSS, B12 PI0, B13 PH12, C1 VBAT, C2 PE4, C3 PI7, C4 PE1, C5 PH3, C6 PB5, C7 PG10, C8 PD4, C9 PC10, C10 PA14, C11 PH14, C12 PH13, C13 PH10, D1 PC14, D2 PE5, D3 PE3, D4 PE0, D5 PB9, D6 PB3, D7 PD7, D8 PD3, D9 PH11, D10 PI3, D11 PI2, D12 PH8, D13 VDD, E1 PC15, E2 PF0, E3 PC13, E4 PE6, E5 PB8, E6 PG12, E7 PD5, E8 PC12, E9 PH9, E10 PH4, E11 PH6, E12 VSS, E13 VDDUSB, F1 PF8, F2 VSS, F3 PF1, F4 PF2, F5 PB7, F6 PD1, F7 PD2, F8 PH7, F9 PH5, F10 PH2, F11 PA10, F12 PA13, F13 PA12, G1 VDD, G2 PF7, G3 PF9, G4 PF5, G5 PF3, G6 PF4, G7 PA8, G8 PG7, G9 PC9, G10 PC8, G11 PA9, G12 PC7, G13 PA11, H1 PH0, H2 VSS, H3 NRST, H4 PF10, H5 OPAMP2_VINM, H6 PF6, H7 PG1, H8 PE10, H9 PG8, H10 PG6, H11 PG4, H12 VDDIO2, H13 PC6, J1 PH1, J2 PC0, J3 PC1, J4 PC2, J5 PA7, J6 PG0, J7 PE9, J8 PG3, J9 PG5, J10 PD14, J11 PD15, J12 VSS, J13 VDD, K1 PC3, K2 VSSA, K3 PA0, K4 PA5, K5 PB0, K6 PF12, K7 PE8, K8 PE14, K9 PB10, K10 PD12, K11 PD10, K12 PD13, K13 PG2, L1 VREF+, L2 VDDA, L3 PA1, L4 PC4, L5 PB2, L6 PF14, L7 PE7, L8 PE13, L9 PB11, L10 PB12, L11 PB15, L12 PD8, L13 PD9, M1 OPAMP1_VINM, M2 PA2, M3 VSS, M4 PC5, M5 PF11, M6 PF13, M7 VSS, M8 PE11, M9 PE15, M10 VSSSMPS, M11 VSS, M12 PB14, M13 PD11, N1 PA4, N2 PA3, N3 VDD, N4 PA6, N5 PB1, N6 PF15, N7 VDD, N8 PE12, N9 VLXSMPS, N10 VDDSMPS, N11 VDD11, N12 VDD, N13 PB13

## STM32U575CGTx
designator *  value STM32U575CGTx  Reference: U
STMicroelectronics Arm Cortex-M33 MCU, 1024KB flash, 786KB RAM, 160 MHz, 1.71-3.6V, 37 GPIO, LQFP48; ki_keywords: Arm Cortex-M33 STM32U5 STM32U575/585; ki_fp_filters: LQFP*7x7mm*P0.5mm*; Footprint: Package_QFP:LQFP-48_7x7mm_P0.5mm; Datasheet: https://www.st.com/resource/en/datasheet/stm32u575cg.pdf; Description_: STMicroelectronics Arm Cortex-M33 MCU, 1024KB flash, 786KB RAM, 160 MHz, 1.71-3.6V, 37 GPIO, LQFP48
pins: 1 VBAT, 2 PC13, 3 PC14, 4 PC15, 5 PH0, 6 PH1, 7 NRST, 8 VSSA, 9 VDDA, 10 PA0, 11 PA1, 12 PA2, 13 PA3, 14 PA4, 15 PA5, 16 PA6, 17 PA7, 18 PB0, 19 PB1, 20 PB2, 21 PB10, 22 VCAP, 23 VSS, 24 VDD, 25 PB12, 26 PB13, 27 PB14, 28 PB15, 29 PA8, 30 PA9, 31 PA10, 32 PA11, 33 PA12, 34 PA13, 35 VSS, 36 VDD, 37 PA14, 38 PA15, 39 PB3, 40 PB4, 41 PB5, 42 PB6, 43 PB7, 44 PH3, 45 PB8, 46 PB9, 47 VSS, 48 VDD

## STM32U575CGTxQ
designator *  value STM32U575CGTxQ  Reference: U
STMicroelectronics Arm Cortex-M33 MCU, 1024KB flash, 786KB RAM, 160 MHz, 1.71-3.6V, 33 GPIO, LQFP48; ki_keywords: Arm Cortex-M33 STM32U5 STM32U575/585; ki_fp_filters: LQFP*7x7mm*P0.5mm*; Footprint: Package_QFP:LQFP-48_7x7mm_P0.5mm; Datasheet: https://www.st.com/resource/en/datasheet/stm32u575cg.pdf; Description_: STMicroelectronics Arm Cortex-M33 MCU, 1024KB flash, 786KB RAM, 160 MHz, 1.71-3.6V, 33 GPIO, LQFP48
pins: 1 VBAT, 2 PC13, 3 PC14, 4 PC15, 5 PH0, 6 PH1, 7 NRST, 8 VSSA, 9 VDDA, 10 PA0, 11 PA1, 12 PA2, 13 PA3, 14 PA4, 15 PA5, 16 PA6, 17 PA7, 18 PB0, 19 PB1, 20 VLXSMPS, 21 VDDSMPS, 22 VSSSMPS, 23 VDD11, 24 VSS, 25 VDD, 26 PB13, 27 PB14, 28 PB15, 29 PA8, 30 PA9, 31 PA10, 32 PA11, 33 PA12, 34 PA13, 35 VSS, 36 VDD, 37 PA14, 38 PA15, 39 PB3, 40 PB4, 41 PB5, 42 PB6, 43 PB7, 44 PH3, 45 PB8, 46 VDD11, 47 VSS, 48 VDD

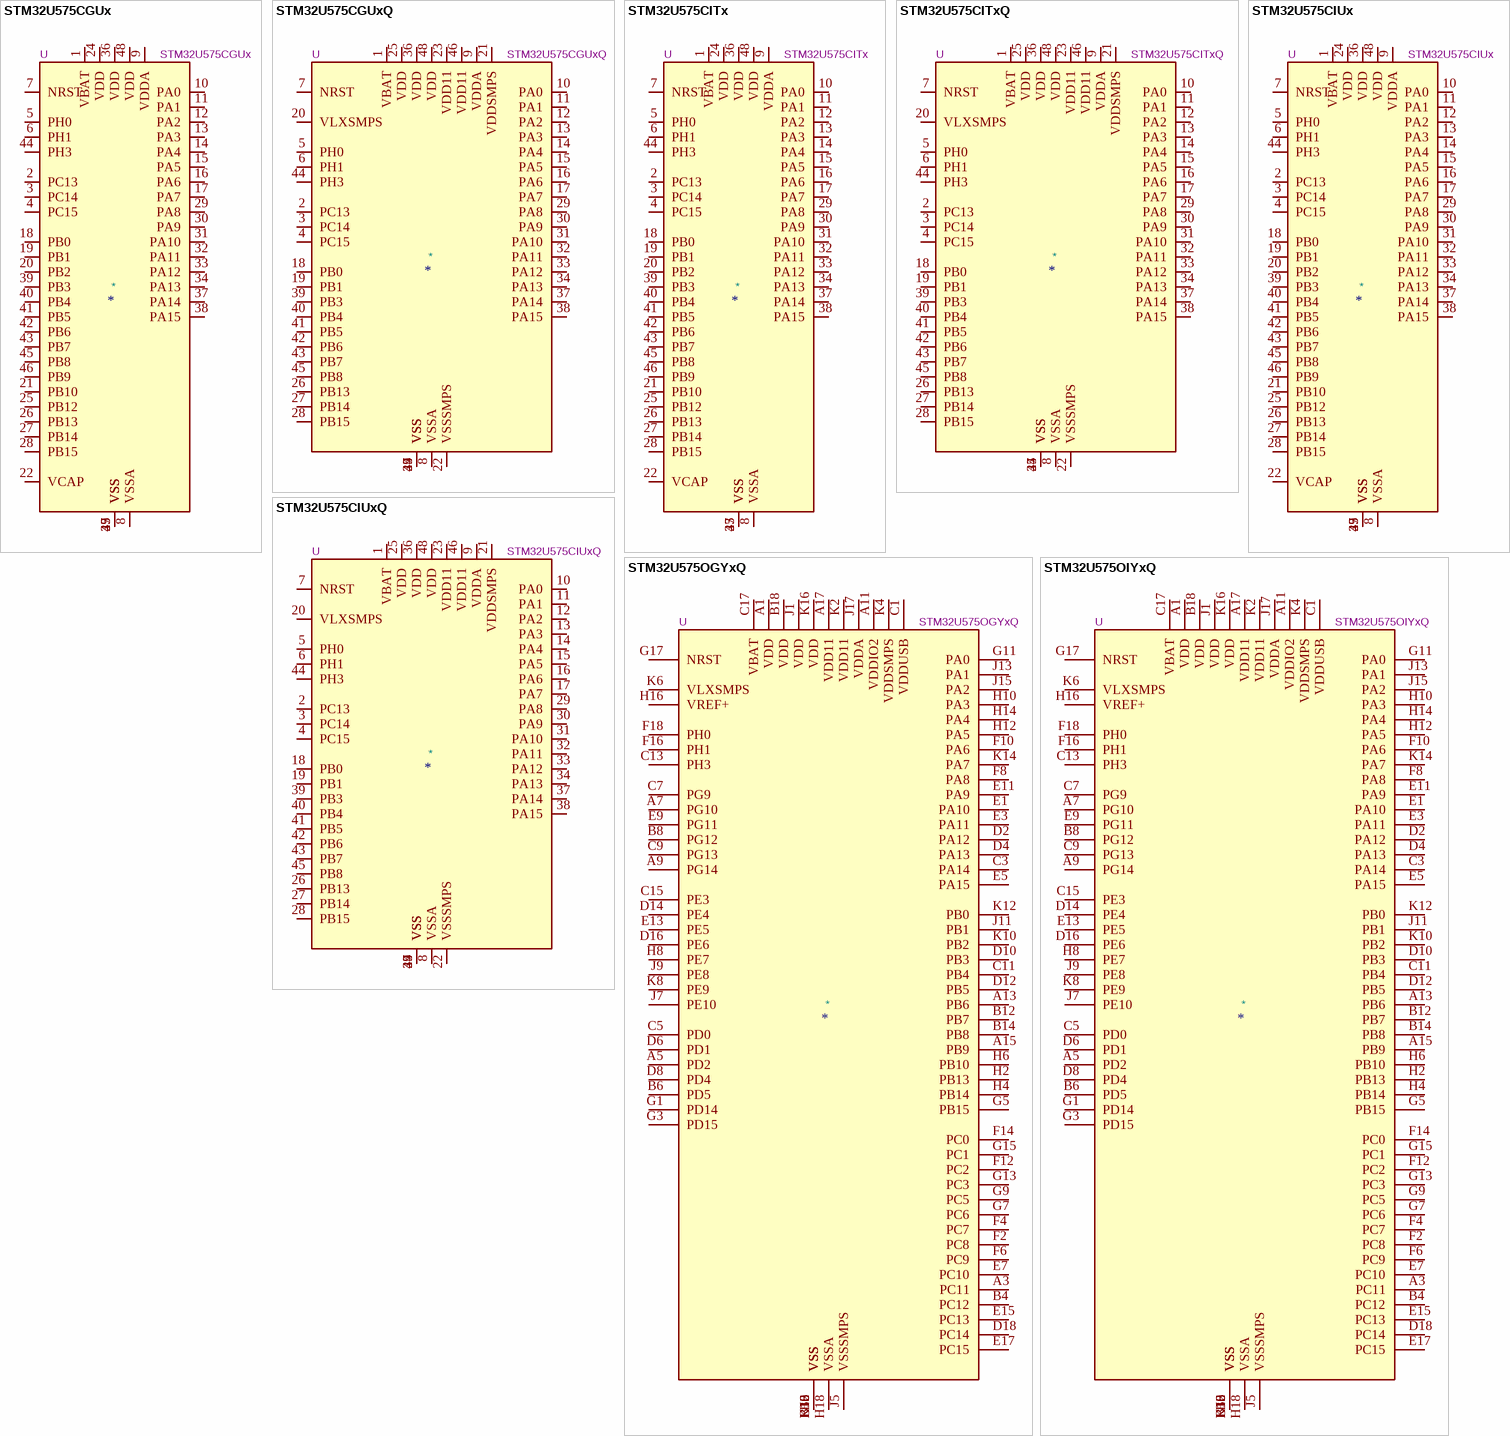
[diagram p21: symbols STM32U575CGUx to STM32U575OIYxQ]

## STM32U575CGUx
designator *  value STM32U575CGUx  Reference: U
STMicroelectronics Arm Cortex-M33 MCU, 1024KB flash, 786KB RAM, 160 MHz, 1.71-3.6V, 37 GPIO, UFQFPN48; ki_keywords: Arm Cortex-M33 STM32U5 STM32U575/585; ki_fp_filters: QFN*1EP*7x7mm*P0.5mm*; Footprint: Package_DFN_QFN:QFN-48-1EP_7x7mm_P0.5mm_EP5.6x5.6mm; Datasheet: https://www.st.com/resource/en/datasheet/stm32u575cg.pdf; Description_: STMicroelectronics Arm Cortex-M33 MCU, 1024KB flash, 786KB RAM, 160 MHz, 1.71-3.6V, 37 GPIO, UFQFPN48
pins: 1 VBAT, 2 PC13, 3 PC14, 4 PC15, 5 PH0, 6 PH1, 7 NRST, 8 VSSA, 9 VDDA, 10 PA0, 11 PA1, 12 PA2, 13 PA3, 14 PA4, 15 PA5, 16 PA6, 17 PA7, 18 PB0, 19 PB1, 20 PB2, 21 PB10, 22 VCAP, 23 VSS, 24 VDD, 25 PB12, 26 PB13, 27 PB14, 28 PB15, 29 PA8, 30 PA9, 31 PA10, 32 PA11, 33 PA12, 34 PA13, 35 VSS, 36 VDD, 37 PA14, 38 PA15, 39 PB3, 40 PB4, 41 PB5, 42 PB6, 43 PB7, 44 PH3, 45 PB8, 46 PB9, 47 VSS, 48 VDD, 49 VSS

## STM32U575CGUxQ
designator *  value STM32U575CGUxQ  Reference: U
STMicroelectronics Arm Cortex-M33 MCU, 1024KB flash, 786KB RAM, 160 MHz, 1.71-3.6V, 33 GPIO, UFQFPN48; ki_keywords: Arm Cortex-M33 STM32U5 STM32U575/585; ki_fp_filters: QFN*1EP*7x7mm*P0.5mm*; Footprint: Package_DFN_QFN:QFN-48-1EP_7x7mm_P0.5mm_EP5.6x5.6mm; Datasheet: https://www.st.com/resource/en/datasheet/stm32u575cg.pdf; Description_: STMicroelectronics Arm Cortex-M33 MCU, 1024KB flash, 786KB RAM, 160 MHz, 1.71-3.6V, 33 GPIO, UFQFPN48
pins: 1 VBAT, 2 PC13, 3 PC14, 4 PC15, 5 PH0, 6 PH1, 7 NRST, 8 VSSA, 9 VDDA, 10 PA0, 11 PA1, 12 PA2, 13 PA3, 14 PA4, 15 PA5, 16 PA6, 17 PA7, 18 PB0, 19 PB1, 20 VLXSMPS, 21 VDDSMPS, 22 VSSSMPS, 23 VDD11, 24 VSS, 25 VDD, 26 PB13, 27 PB14, 28 PB15, 29 PA8, 30 PA9, 31 PA10, 32 PA11, 33 PA12, 34 PA13, 35 VSS, 36 VDD, 37 PA14, 38 PA15, 39 PB3, 40 PB4, 41 PB5, 42 PB6, 43 PB7, 44 PH3, 45 PB8, 46 VDD11, 47 VSS, 48 VDD, 49 VSS

## STM32U575CITx
designator *  value STM32U575CITx  Reference: U
STMicroelectronics Arm Cortex-M33 MCU, 2048KB flash, 786KB RAM, 160 MHz, 1.71-3.6V, 37 GPIO, LQFP48; ki_keywords: Arm Cortex-M33 STM32U5 STM32U575/585; ki_fp_filters: LQFP*7x7mm*P0.5mm*; Footprint: Package_QFP:LQFP-48_7x7mm_P0.5mm; Datasheet: https://www.st.com/resource/en/datasheet/stm32u575ci.pdf; Description_: STMicroelectronics Arm Cortex-M33 MCU, 2048KB flash, 786KB RAM, 160 MHz, 1.71-3.6V, 37 GPIO, LQFP48
pins: 1 VBAT, 2 PC13, 3 PC14, 4 PC15, 5 PH0, 6 PH1, 7 NRST, 8 VSSA, 9 VDDA, 10 PA0, 11 PA1, 12 PA2, 13 PA3, 14 PA4, 15 PA5, 16 PA6, 17 PA7, 18 PB0, 19 PB1, 20 PB2, 21 PB10, 22 VCAP, 23 VSS, 24 VDD, 25 PB12, 26 PB13, 27 PB14, 28 PB15, 29 PA8, 30 PA9, 31 PA10, 32 PA11, 33 PA12, 34 PA13, 35 VSS, 36 VDD, 37 PA14, 38 PA15, 39 PB3, 40 PB4, 41 PB5, 42 PB6, 43 PB7, 44 PH3, 45 PB8, 46 PB9, 47 VSS, 48 VDD

## STM32U575CITxQ
designator *  value STM32U575CITxQ  Reference: U
STMicroelectronics Arm Cortex-M33 MCU, 2048KB flash, 786KB RAM, 160 MHz, 1.71-3.6V, 33 GPIO, LQFP48; ki_keywords: Arm Cortex-M33 STM32U5 STM32U575/585; ki_fp_filters: LQFP*7x7mm*P0.5mm*; Footprint: Package_QFP:LQFP-48_7x7mm_P0.5mm; Datasheet: https://www.st.com/resource/en/datasheet/stm32u575ci.pdf; Description_: STMicroelectronics Arm Cortex-M33 MCU, 2048KB flash, 786KB RAM, 160 MHz, 1.71-3.6V, 33 GPIO, LQFP48
pins: 1 VBAT, 2 PC13, 3 PC14, 4 PC15, 5 PH0, 6 PH1, 7 NRST, 8 VSSA, 9 VDDA, 10 PA0, 11 PA1, 12 PA2, 13 PA3, 14 PA4, 15 PA5, 16 PA6, 17 PA7, 18 PB0, 19 PB1, 20 VLXSMPS, 21 VDDSMPS, 22 VSSSMPS, 23 VDD11, 24 VSS, 25 VDD, 26 PB13, 27 PB14, 28 PB15, 29 PA8, 30 PA9, 31 PA10, 32 PA11, 33 PA12, 34 PA13, 35 VSS, 36 VDD, 37 PA14, 38 PA15, 39 PB3, 40 PB4, 41 PB5, 42 PB6, 43 PB7, 44 PH3, 45 PB8, 46 VDD11, 47 VSS, 48 VDD

## STM32U575CIUx
designator *  value STM32U575CIUx  Reference: U
STMicroelectronics Arm Cortex-M33 MCU, 2048KB flash, 786KB RAM, 160 MHz, 1.71-3.6V, 37 GPIO, UFQFPN48; ki_keywords: Arm Cortex-M33 STM32U5 STM32U575/585; ki_fp_filters: QFN*1EP*7x7mm*P0.5mm*; Footprint: Package_DFN_QFN:QFN-48-1EP_7x7mm_P0.5mm_EP5.6x5.6mm; Datasheet: https://www.st.com/resource/en/datasheet/stm32u575ci.pdf; Description_: STMicroelectronics Arm Cortex-M33 MCU, 2048KB flash, 786KB RAM, 160 MHz, 1.71-3.6V, 37 GPIO, UFQFPN48
pins: 1 VBAT, 2 PC13, 3 PC14, 4 PC15, 5 PH0, 6 PH1, 7 NRST, 8 VSSA, 9 VDDA, 10 PA0, 11 PA1, 12 PA2, 13 PA3, 14 PA4, 15 PA5, 16 PA6, 17 PA7, 18 PB0, 19 PB1, 20 PB2, 21 PB10, 22 VCAP, 23 VSS, 24 VDD, 25 PB12, 26 PB13, 27 PB14, 28 PB15, 29 PA8, 30 PA9, 31 PA10, 32 PA11, 33 PA12, 34 PA13, 35 VSS, 36 VDD, 37 PA14, 38 PA15, 39 PB3, 40 PB4, 41 PB5, 42 PB6, 43 PB7, 44 PH3, 45 PB8, 46 PB9, 47 VSS, 48 VDD, 49 VSS

## STM32U575CIUxQ
designator *  value STM32U575CIUxQ  Reference: U
STMicroelectronics Arm Cortex-M33 MCU, 2048KB flash, 786KB RAM, 160 MHz, 1.71-3.6V, 33 GPIO, UFQFPN48; ki_keywords: Arm Cortex-M33 STM32U5 STM32U575/585; ki_fp_filters: QFN*1EP*7x7mm*P0.5mm*; Footprint: Package_DFN_QFN:QFN-48-1EP_7x7mm_P0.5mm_EP5.6x5.6mm; Datasheet: https://www.st.com/resource/en/datasheet/stm32u575ci.pdf; Description_: STMicroelectronics Arm Cortex-M33 MCU, 2048KB flash, 786KB RAM, 160 MHz, 1.71-3.6V, 33 GPIO, UFQFPN48
pins: 1 VBAT, 2 PC13, 3 PC14, 4 PC15, 5 PH0, 6 PH1, 7 NRST, 8 VSSA, 9 VDDA, 10 PA0, 11 PA1, 12 PA2, 13 PA3, 14 PA4, 15 PA5, 16 PA6, 17 PA7, 18 PB0, 19 PB1, 20 VLXSMPS, 21 VDDSMPS, 22 VSSSMPS, 23 VDD11, 24 VSS, 25 VDD, 26 PB13, 27 PB14, 28 PB15, 29 PA8, 30 PA9, 31 PA10, 32 PA11, 33 PA12, 34 PA13, 35 VSS, 36 VDD, 37 PA14, 38 PA15, 39 PB3, 40 PB4, 41 PB5, 42 PB6, 43 PB7, 44 PH3, 45 PB8, 46 VDD11, 47 VSS, 48 VDD, 49 VSS

## STM32U575OGYxQ
designator *  value STM32U575OGYxQ  Reference: U
STMicroelectronics Arm Cortex-M33 MCU, 1024KB flash, 786KB RAM, 160 MHz, 1.71-3.6V, 69 GPIO, WLCSP90; ki_keywords: Arm Cortex-M33 STM32U5 STM32U575/585; ki_fp_filters: ST*WLCSP*4.2x3.95mm*Layout18x10*P0.4mm*Stagger*; Footprint: Package_CSP:ST_WLCSP-90_4.2x3.95mm_Layout18x10_P0.4mm_Stagger; Datasheet: https://www.st.com/resource/en/datasheet/stm32u575og.pdf; Description_: STMicroelectronics Arm Cortex-M33 MCU, 1024KB flash, 786KB RAM, 160 MHz, 1.71-3.6V, 69 GPIO, WLCSP90
pins: A1 VDD, A3 PC11, A5 PD2, A7 PG10, A9 PG14, A11 VDDIO2, A13 PB6, A15 PB9, A17 VDD11, B2 VSS, B4 PC12, B6 PD5, B8 PG12, B10 VSS, B12 PB7, B14 PB8, B16 VSS, B18 VDD, C1 VDDUSB, C3 PA14, C5 PD0, C7 PG9, C9 PG13, C11 PB4, C13 PH3, C15 PE3, C17 VBAT, D2 PA12, D4 PA13, D6 PD1, D8 PD4, D10 PB3, D12 PB5, D14 PE4, D16 PE6, D18 PC14, E1 PA10, E3 PA11, E5 PA15, E7 PC10, E9 PG11, E11 PA9, E13 PE5, E15 PC13, E17 PC15, F2 PC8, F4 PC7, F6 PC9, F8 PA8, F10 PA6, F12 PC2, F14 PC0, F16 PH1, F18 PH0, G1 PD14, G3 PD15, G5 PB15, G7 PC6, G9 PC5, G11 PA0, G13 PC3, G15 PC1, G17 NRST, H2 PB13, H4 PB14, H6 PB10, H8 PE7, H10 PA3, H12 PA5, H14 PA4, H16 VREF+, H18 VSSA, J1 VDD, J3 VSS, J5 VSSSMPS, J7 PE10, J9 PE8, J11 PB1, J13 PA1, J15 PA2, J17 VDDA, K2 VDD11, K4 VDDSMPS, K6 VLXSMPS, K8 PE9, K10 PB2, K12 PB0, K14 PA7, K16 VDD, K18 VSS

## STM32U575OIYxQ
designator *  value STM32U575OIYxQ  Reference: U
STMicroelectronics Arm Cortex-M33 MCU, 2048KB flash, 786KB RAM, 160 MHz, 1.71-3.6V, 69 GPIO, WLCSP90; ki_keywords: Arm Cortex-M33 STM32U5 STM32U575/585; ki_fp_filters: ST*WLCSP*4.2x3.95mm*Layout18x10*P0.4mm*Stagger*; Footprint: Package_CSP:ST_WLCSP-90_4.2x3.95mm_Layout18x10_P0.4mm_Stagger; Datasheet: https://www.st.com/resource/en/datasheet/stm32u575oi.pdf; Description_: STMicroelectronics Arm Cortex-M33 MCU, 2048KB flash, 786KB RAM, 160 MHz, 1.71-3.6V, 69 GPIO, WLCSP90
pins: A1 VDD, A3 PC11, A5 PD2, A7 PG10, A9 PG14, A11 VDDIO2, A13 PB6, A15 PB9, A17 VDD11, B2 VSS, B4 PC12, B6 PD5, B8 PG12, B10 VSS, B12 PB7, B14 PB8, B16 VSS, B18 VDD, C1 VDDUSB, C3 PA14, C5 PD0, C7 PG9, C9 PG13, C11 PB4, C13 PH3, C15 PE3, C17 VBAT, D2 PA12, D4 PA13, D6 PD1, D8 PD4, D10 PB3, D12 PB5, D14 PE4, D16 PE6, D18 PC14, E1 PA10, E3 PA11, E5 PA15, E7 PC10, E9 PG11, E11 PA9, E13 PE5, E15 PC13, E17 PC15, F2 PC8, F4 PC7, F6 PC9, F8 PA8, F10 PA6, F12 PC2, F14 PC0, F16 PH1, F18 PH0, G1 PD14, G3 PD15, G5 PB15, G7 PC6, G9 PC5, G11 PA0, G13 PC3, G15 PC1, G17 NRST, H2 PB13, H4 PB14, H6 PB10, H8 PE7, H10 PA3, H12 PA5, H14 PA4, H16 VREF+, H18 VSSA, J1 VDD, J3 VSS, J5 VSSSMPS, J7 PE10, J9 PE8, J11 PB1, J13 PA1, J15 PA2, J17 VDDA, K2 VDD11, K4 VDDSMPS, K6 VLXSMPS, K8 PE9, K10 PB2, K12 PB0, K14 PA7, K16 VDD, K18 VSS

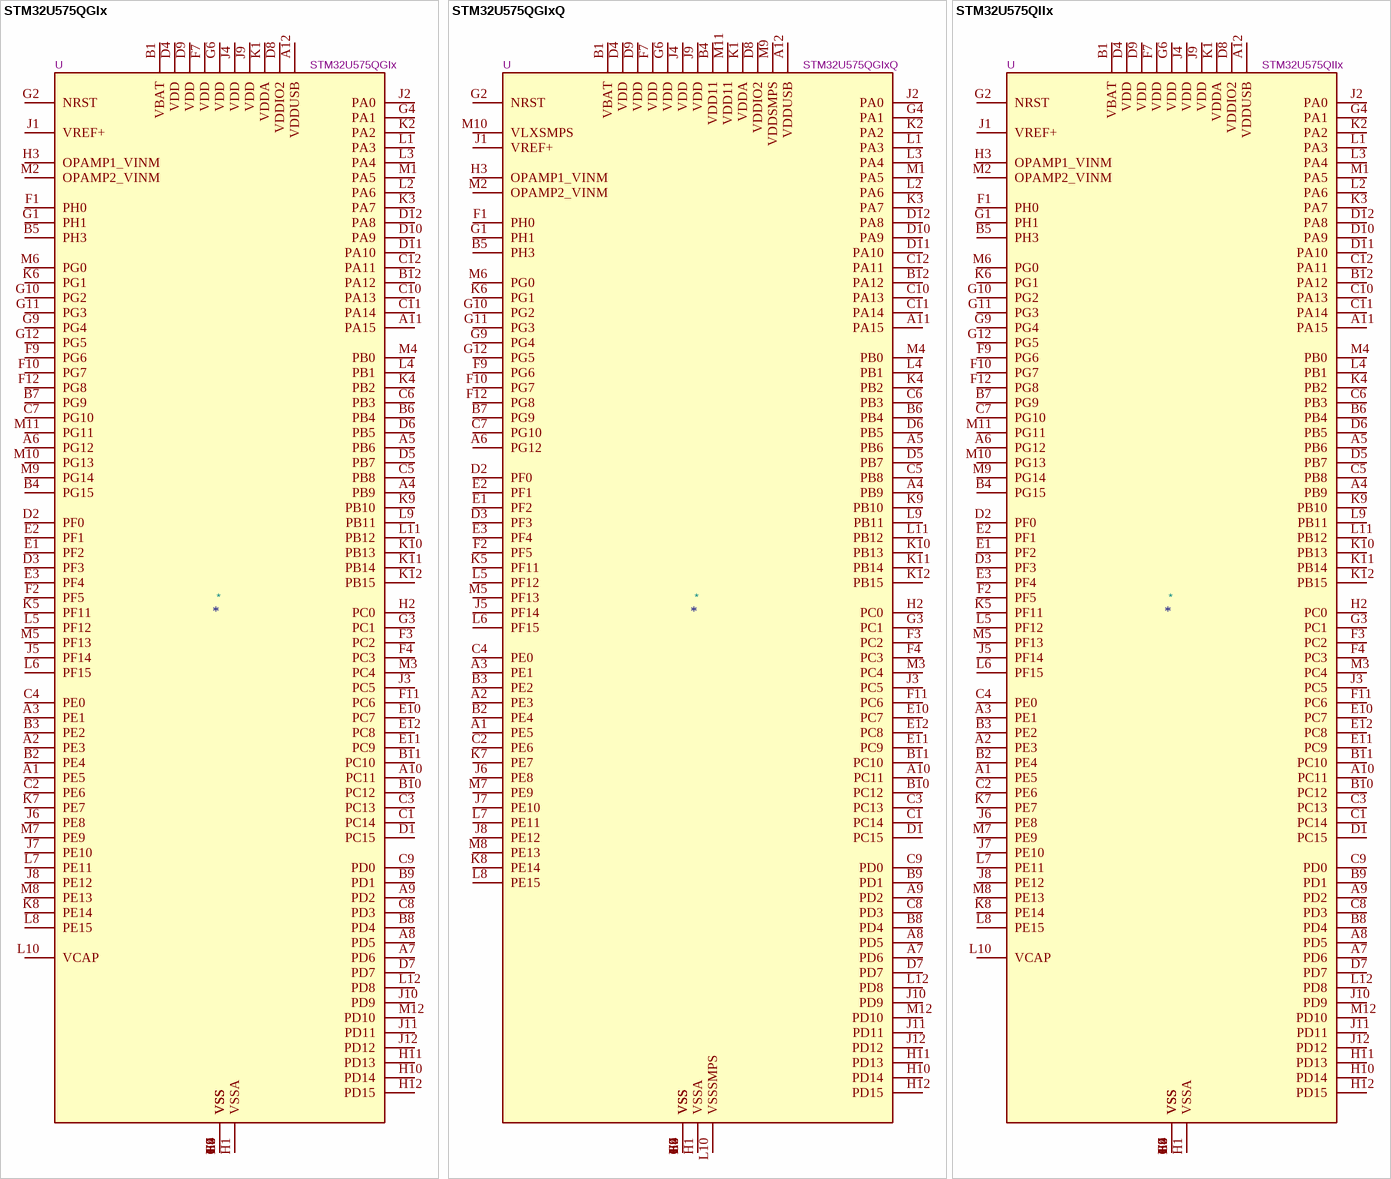
[diagram p22: symbols STM32U575QGIx to STM32U575QIIx]

## STM32U575QGIx
designator *  value STM32U575QGIx  Reference: U
STMicroelectronics Arm Cortex-M33 MCU, 1024KB flash, 786KB RAM, 160 MHz, 1.71-3.6V, 110 GPIO, UFBGA132; ki_keywords: Arm Cortex-M33 STM32U5 STM32U575/585; ki_fp_filters: UFBGA*7x7mm*Layout12x12*P0.5mm*; Footprint: Package_BGA:UFBGA-132_7x7mm_Layout12x12_P0.5mm; Datasheet: https://www.st.com/resource/en/datasheet/stm32u575qg.pdf; Description_: STMicroelectronics Arm Cortex-M33 MCU, 1024KB flash, 786KB RAM, 160 MHz, 1.71-3.6V, 110 GPIO, UFBGA132
pins: A1 PE5, A2 PE3, A3 PE1, A4 PB9, A5 PB6, A6 PG12, A7 PD6, A8 PD5, A9 PD2, A10 PC11, A11 PA15, A12 VDDUSB, B1 VBAT, B2 PE4, B3 PE2, B4 PG15, B5 PH3, B6 PB4, B7 PG9, B8 PD4, B9 PD1, B10 PC12, B11 PC10, B12 PA12, C1 PC14, C2 PE6, C3 PC13, C4 PE0, C5 PB8, C6 PB3, C7 PG10, C8 PD3, C9 PD0, C10 PA13, C11 PA14, C12 PA11, D1 PC15, D2 PF0, D3 PF3, D4 VDD, D5 PB7, D6 PB5, D7 PD7, D8 VDDIO2, D9 VDD, D10 PA9, D11 PA10, D12 PA8, E1 PF2, E2 PF1, E3 PF4, E4 VSS, E9 VSS, E10 PC7, E11 PC9, E12 PC8, F1 PH0, F2 PF5, F3 PC2, F4 PC3, F6 VSS, F7 VDD, F9 PG6, F10 PG7, F11 PC6, F12 PG8, G1 PH1, G2 NRST, G3 PC1, G4 PA1, G6 VDD, G7 VSS, G9 PG4, G10 PG2, G11 PG3, G12 PG5, H1 VSSA, H2 PC0, H3 OPAMP1_VINM, H4 VSS, H9 VSS, H10 PD14, H11 PD13, H12 PD15, J1 VREF+, J2 PA0, J3 PC5, J4 VDD, J5 PF14, J6 PE8, J7 PE10, J8 PE12, J9 VDD, J10 PD9, J11 PD11, J12 PD12, K1 VDDA, K2 PA2, K3 PA7, K4 PB2, K5 PF11, K6 PG1, K7 PE7, K8 PE14, K9 PB10, K10 PB13, K11 PB14, K12 PB15, L1 PA3, L2 PA6, L3 PA4, L4 PB1, L5 PF12, L6 PF15, L7 PE11, L8 PE15, L9 PB11, L10 VCAP, L11 PB12, L12 PD8, M1 PA5, M2 OPAMP2_VINM, M3 PC4, M4 PB0, M5 PF13, M6 PG0, M7 PE9, M8 PE13, M9 PG14, M10 PG13, M11 PG11, M12 PD10

## STM32U575QGIxQ
designator *  value STM32U575QGIxQ  Reference: U
STMicroelectronics Arm Cortex-M33 MCU, 1024KB flash, 786KB RAM, 160 MHz, 1.71-3.6V, 106 GPIO, UFBGA132; ki_keywords: Arm Cortex-M33 STM32U5 STM32U575/585; ki_fp_filters: UFBGA*7x7mm*Layout12x12*P0.5mm*; Footprint: Package_BGA:UFBGA-132_7x7mm_Layout12x12_P0.5mm; Datasheet: https://www.st.com/resource/en/datasheet/stm32u575qg.pdf; Description_: STMicroelectronics Arm Cortex-M33 MCU, 1024KB flash, 786KB RAM, 160 MHz, 1.71-3.6V, 106 GPIO, UFBGA132
pins: A1 PE5, A2 PE3, A3 PE1, A4 PB9, A5 PB6, A6 PG12, A7 PD6, A8 PD5, A9 PD2, A10 PC11, A11 PA15, A12 VDDUSB, B1 VBAT, B2 PE4, B3 PE2, B4 VDD11, B5 PH3, B6 PB4, B7 PG9, B8 PD4, B9 PD1, B10 PC12, B11 PC10, B12 PA12, C1 PC14, C2 PE6, C3 PC13, C4 PE0, C5 PB8, C6 PB3, C7 PG10, C8 PD3, C9 PD0, C10 PA13, C11 PA14, C12 PA11, D1 PC15, D2 PF0, D3 PF3, D4 VDD, D5 PB7, D6 PB5, D7 PD7, D8 VDDIO2, D9 VDD, D10 PA9, D11 PA10, D12 PA8, E1 PF2, E2 PF1, E3 PF4, E4 VSS, E9 VSS, E10 PC7, E11 PC9, E12 PC8, F1 PH0, F2 PF5, F3 PC2, F4 PC3, F6 VSS, F7 VDD, F9 PG6, F10 PG7, F11 PC6, F12 PG8, G1 PH1, G2 NRST, G3 PC1, G4 PA1, G6 VDD, G7 VSS, G9 PG4, G10 PG2, G11 PG3, G12 PG5, H1 VSSA, H2 PC0, H3 OPAMP1_VINM, H4 VSS, H9 VSS, H10 PD14, H11 PD13, H12 PD15, J1 VREF+, J2 PA0, J3 PC5, J4 VDD, J5 PF14, J6 PE8, J7 PE10, J8 PE12, J9 VDD, J10 PD9, J11 PD11, J12 PD12, K1 VDDA, K2 PA2, K3 PA7, K4 PB2, K5 PF11, K6 PG1, K7 PE7, K8 PE14, K9 PB10, K10 PB13, K11 PB14, K12 PB15, L1 PA3, L2 PA6, L3 PA4, L4 PB1, L5 PF12, L6 PF15, L7 PE11, L8 PE15, L9 PB11, L10 VSSSMPS, L11 PB12, L12 PD8, M1 PA5, M2 OPAMP2_VINM, M3 PC4, M4 PB0, M5 PF13, M6 PG0, M7 PE9, M8 PE13, M9 VDDSMPS, M10 VLXSMPS, M11 VDD11, M12 PD10

## STM32U575QIIx
designator *  value STM32U575QIIx  Reference: U
STMicroelectronics Arm Cortex-M33 MCU, 2048KB flash, 786KB RAM, 160 MHz, 1.71-3.6V, 110 GPIO, UFBGA132; ki_keywords: Arm Cortex-M33 STM32U5 STM32U575/585; ki_fp_filters: UFBGA*7x7mm*Layout12x12*P0.5mm*; Footprint: Package_BGA:UFBGA-132_7x7mm_Layout12x12_P0.5mm; Datasheet: https://www.st.com/resource/en/datasheet/stm32u575qi.pdf; Description_: STMicroelectronics Arm Cortex-M33 MCU, 2048KB flash, 786KB RAM, 160 MHz, 1.71-3.6V, 110 GPIO, UFBGA132
pins: A1 PE5, A2 PE3, A3 PE1, A4 PB9, A5 PB6, A6 PG12, A7 PD6, A8 PD5, A9 PD2, A10 PC11, A11 PA15, A12 VDDUSB, B1 VBAT, B2 PE4, B3 PE2, B4 PG15, B5 PH3, B6 PB4, B7 PG9, B8 PD4, B9 PD1, B10 PC12, B11 PC10, B12 PA12, C1 PC14, C2 PE6, C3 PC13, C4 PE0, C5 PB8, C6 PB3, C7 PG10, C8 PD3, C9 PD0, C10 PA13, C11 PA14, C12 PA11, D1 PC15, D2 PF0, D3 PF3, D4 VDD, D5 PB7, D6 PB5, D7 PD7, D8 VDDIO2, D9 VDD, D10 PA9, D11 PA10, D12 PA8, E1 PF2, E2 PF1, E3 PF4, E4 VSS, E9 VSS, E10 PC7, E11 PC9, E12 PC8, F1 PH0, F2 PF5, F3 PC2, F4 PC3, F6 VSS, F7 VDD, F9 PG6, F10 PG7, F11 PC6, F12 PG8, G1 PH1, G2 NRST, G3 PC1, G4 PA1, G6 VDD, G7 VSS, G9 PG4, G10 PG2, G11 PG3, G12 PG5, H1 VSSA, H2 PC0, H3 OPAMP1_VINM, H4 VSS, H9 VSS, H10 PD14, H11 PD13, H12 PD15, J1 VREF+, J2 PA0, J3 PC5, J4 VDD, J5 PF14, J6 PE8, J7 PE10, J8 PE12, J9 VDD, J10 PD9, J11 PD11, J12 PD12, K1 VDDA, K2 PA2, K3 PA7, K4 PB2, K5 PF11, K6 PG1, K7 PE7, K8 PE14, K9 PB10, K10 PB13, K11 PB14, K12 PB15, L1 PA3, L2 PA6, L3 PA4, L4 PB1, L5 PF12, L6 PF15, L7 PE11, L8 PE15, L9 PB11, L10 VCAP, L11 PB12, L12 PD8, M1 PA5, M2 OPAMP2_VINM, M3 PC4, M4 PB0, M5 PF13, M6 PG0, M7 PE9, M8 PE13, M9 PG14, M10 PG13, M11 PG11, M12 PD10

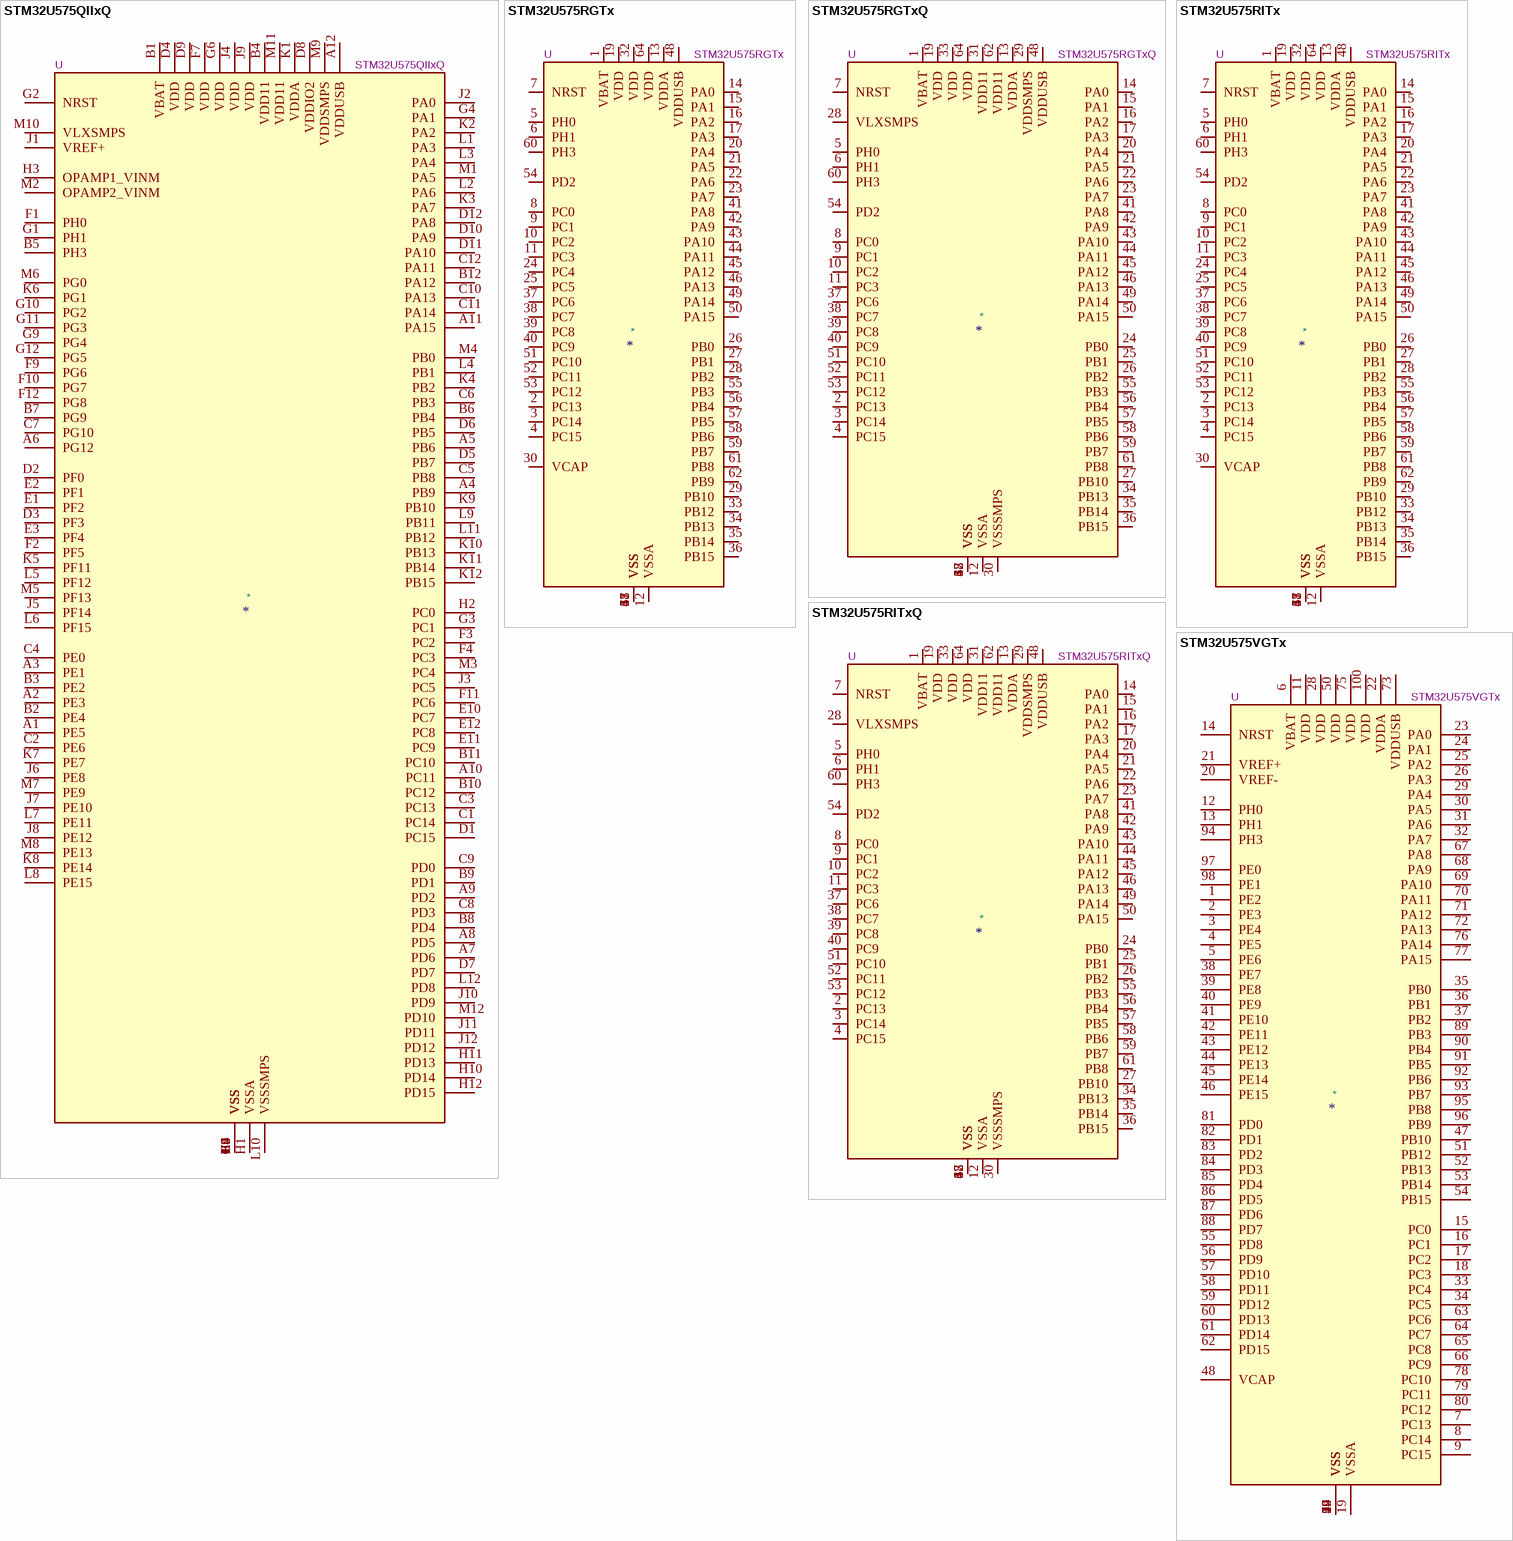
[diagram p23: symbols STM32U575QIIxQ to STM32U575VGTx]

## STM32U575QIIxQ
designator *  value STM32U575QIIxQ  Reference: U
STMicroelectronics Arm Cortex-M33 MCU, 2048KB flash, 786KB RAM, 160 MHz, 1.71-3.6V, 106 GPIO, UFBGA132; ki_keywords: Arm Cortex-M33 STM32U5 STM32U575/585; ki_fp_filters: UFBGA*7x7mm*Layout12x12*P0.5mm*; Footprint: Package_BGA:UFBGA-132_7x7mm_Layout12x12_P0.5mm; Datasheet: https://www.st.com/resource/en/datasheet/stm32u575qi.pdf; Description_: STMicroelectronics Arm Cortex-M33 MCU, 2048KB flash, 786KB RAM, 160 MHz, 1.71-3.6V, 106 GPIO, UFBGA132
pins: A1 PE5, A2 PE3, A3 PE1, A4 PB9, A5 PB6, A6 PG12, A7 PD6, A8 PD5, A9 PD2, A10 PC11, A11 PA15, A12 VDDUSB, B1 VBAT, B2 PE4, B3 PE2, B4 VDD11, B5 PH3, B6 PB4, B7 PG9, B8 PD4, B9 PD1, B10 PC12, B11 PC10, B12 PA12, C1 PC14, C2 PE6, C3 PC13, C4 PE0, C5 PB8, C6 PB3, C7 PG10, C8 PD3, C9 PD0, C10 PA13, C11 PA14, C12 PA11, D1 PC15, D2 PF0, D3 PF3, D4 VDD, D5 PB7, D6 PB5, D7 PD7, D8 VDDIO2, D9 VDD, D10 PA9, D11 PA10, D12 PA8, E1 PF2, E2 PF1, E3 PF4, E4 VSS, E9 VSS, E10 PC7, E11 PC9, E12 PC8, F1 PH0, F2 PF5, F3 PC2, F4 PC3, F6 VSS, F7 VDD, F9 PG6, F10 PG7, F11 PC6, F12 PG8, G1 PH1, G2 NRST, G3 PC1, G4 PA1, G6 VDD, G7 VSS, G9 PG4, G10 PG2, G11 PG3, G12 PG5, H1 VSSA, H2 PC0, H3 OPAMP1_VINM, H4 VSS, H9 VSS, H10 PD14, H11 PD13, H12 PD15, J1 VREF+, J2 PA0, J3 PC5, J4 VDD, J5 PF14, J6 PE8, J7 PE10, J8 PE12, J9 VDD, J10 PD9, J11 PD11, J12 PD12, K1 VDDA, K2 PA2, K3 PA7, K4 PB2, K5 PF11, K6 PG1, K7 PE7, K8 PE14, K9 PB10, K10 PB13, K11 PB14, K12 PB15, L1 PA3, L2 PA6, L3 PA4, L4 PB1, L5 PF12, L6 PF15, L7 PE11, L8 PE15, L9 PB11, L10 VSSSMPS, L11 PB12, L12 PD8, M1 PA5, M2 OPAMP2_VINM, M3 PC4, M4 PB0, M5 PF13, M6 PG0, M7 PE9, M8 PE13, M9 VDDSMPS, M10 VLXSMPS, M11 VDD11, M12 PD10

## STM32U575RGTx
designator *  value STM32U575RGTx  Reference: U
STMicroelectronics Arm Cortex-M33 MCU, 1024KB flash, 786KB RAM, 160 MHz, 1.71-3.6V, 51 GPIO, LQFP64; ki_keywords: Arm Cortex-M33 STM32U5 STM32U575/585; ki_fp_filters: LQFP*10x10mm*P0.5mm*; Footprint: Package_QFP:LQFP-64_10x10mm_P0.5mm; Datasheet: https://www.st.com/resource/en/datasheet/stm32u575rg.pdf; Description_: STMicroelectronics Arm Cortex-M33 MCU, 1024KB flash, 786KB RAM, 160 MHz, 1.71-3.6V, 51 GPIO, LQFP64
pins: 1 VBAT, 2 PC13, 3 PC14, 4 PC15, 5 PH0, 6 PH1, 7 NRST, 8 PC0, 9 PC1, 10 PC2, 11 PC3, 12 VSSA, 13 VDDA, 14 PA0, 15 PA1, 16 PA2, 17 PA3, 18 VSS, 19 VDD, 20 PA4, 21 PA5, 22 PA6, 23 PA7, 24 PC4, 25 PC5, 26 PB0, 27 PB1, 28 PB2, 29 PB10, 30 VCAP, 31 VSS, 32 VDD, 33 PB12, 34 PB13, 35 PB14, 36 PB15, 37 PC6, 38 PC7, 39 PC8, 40 PC9, 41 PA8, 42 PA9, 43 PA10, 44 PA11, 45 PA12, 46 PA13, 47 VSS, 48 VDDUSB, 49 PA14, 50 PA15, 51 PC10, 52 PC11, 53 PC12, 54 PD2, 55 PB3, 56 PB4, 57 PB5, 58 PB6, 59 PB7, 60 PH3, 61 PB8, 62 PB9, 63 VSS, 64 VDD

## STM32U575RGTxQ
designator *  value STM32U575RGTxQ  Reference: U
STMicroelectronics Arm Cortex-M33 MCU, 1024KB flash, 786KB RAM, 160 MHz, 1.71-3.6V, 47 GPIO, LQFP64; ki_keywords: Arm Cortex-M33 STM32U5 STM32U575/585; ki_fp_filters: LQFP*10x10mm*P0.5mm*; Footprint: Package_QFP:LQFP-64_10x10mm_P0.5mm; Datasheet: https://www.st.com/resource/en/datasheet/stm32u575rg.pdf; Description_: STMicroelectronics Arm Cortex-M33 MCU, 1024KB flash, 786KB RAM, 160 MHz, 1.71-3.6V, 47 GPIO, LQFP64
pins: 1 VBAT, 2 PC13, 3 PC14, 4 PC15, 5 PH0, 6 PH1, 7 NRST, 8 PC0, 9 PC1, 10 PC2, 11 PC3, 12 VSSA, 13 VDDA, 14 PA0, 15 PA1, 16 PA2, 17 PA3, 18 VSS, 19 VDD, 20 PA4, 21 PA5, 22 PA6, 23 PA7, 24 PB0, 25 PB1, 26 PB2, 27 PB10, 28 VLXSMPS, 29 VDDSMPS, 30 VSSSMPS, 31 VDD11, 32 VSS, 33 VDD, 34 PB13, 35 PB14, 36 PB15, 37 PC6, 38 PC7, 39 PC8, 40 PC9, 41 PA8, 42 PA9, 43 PA10, 44 PA11, 45 PA12, 46 PA13, 47 VSS, 48 VDDUSB, 49 PA14, 50 PA15, 51 PC10, 52 PC11, 53 PC12, 54 PD2, 55 PB3, 56 PB4, 57 PB5, 58 PB6, 59 PB7, 60 PH3, 61 PB8, 62 VDD11, 63 VSS, 64 VDD

## STM32U575RITx
designator *  value STM32U575RITx  Reference: U
STMicroelectronics Arm Cortex-M33 MCU, 2048KB flash, 786KB RAM, 160 MHz, 1.71-3.6V, 51 GPIO, LQFP64; ki_keywords: Arm Cortex-M33 STM32U5 STM32U575/585; ki_fp_filters: LQFP*10x10mm*P0.5mm*; Footprint: Package_QFP:LQFP-64_10x10mm_P0.5mm; Datasheet: https://www.st.com/resource/en/datasheet/stm32u575ri.pdf; Description_: STMicroelectronics Arm Cortex-M33 MCU, 2048KB flash, 786KB RAM, 160 MHz, 1.71-3.6V, 51 GPIO, LQFP64
pins: 1 VBAT, 2 PC13, 3 PC14, 4 PC15, 5 PH0, 6 PH1, 7 NRST, 8 PC0, 9 PC1, 10 PC2, 11 PC3, 12 VSSA, 13 VDDA, 14 PA0, 15 PA1, 16 PA2, 17 PA3, 18 VSS, 19 VDD, 20 PA4, 21 PA5, 22 PA6, 23 PA7, 24 PC4, 25 PC5, 26 PB0, 27 PB1, 28 PB2, 29 PB10, 30 VCAP, 31 VSS, 32 VDD, 33 PB12, 34 PB13, 35 PB14, 36 PB15, 37 PC6, 38 PC7, 39 PC8, 40 PC9, 41 PA8, 42 PA9, 43 PA10, 44 PA11, 45 PA12, 46 PA13, 47 VSS, 48 VDDUSB, 49 PA14, 50 PA15, 51 PC10, 52 PC11, 53 PC12, 54 PD2, 55 PB3, 56 PB4, 57 PB5, 58 PB6, 59 PB7, 60 PH3, 61 PB8, 62 PB9, 63 VSS, 64 VDD

## STM32U575RITxQ
designator *  value STM32U575RITxQ  Reference: U
STMicroelectronics Arm Cortex-M33 MCU, 2048KB flash, 786KB RAM, 160 MHz, 1.71-3.6V, 47 GPIO, LQFP64; ki_keywords: Arm Cortex-M33 STM32U5 STM32U575/585; ki_fp_filters: LQFP*10x10mm*P0.5mm*; Footprint: Package_QFP:LQFP-64_10x10mm_P0.5mm; Datasheet: https://www.st.com/resource/en/datasheet/stm32u575ri.pdf; Description_: STMicroelectronics Arm Cortex-M33 MCU, 2048KB flash, 786KB RAM, 160 MHz, 1.71-3.6V, 47 GPIO, LQFP64
pins: 1 VBAT, 2 PC13, 3 PC14, 4 PC15, 5 PH0, 6 PH1, 7 NRST, 8 PC0, 9 PC1, 10 PC2, 11 PC3, 12 VSSA, 13 VDDA, 14 PA0, 15 PA1, 16 PA2, 17 PA3, 18 VSS, 19 VDD, 20 PA4, 21 PA5, 22 PA6, 23 PA7, 24 PB0, 25 PB1, 26 PB2, 27 PB10, 28 VLXSMPS, 29 VDDSMPS, 30 VSSSMPS, 31 VDD11, 32 VSS, 33 VDD, 34 PB13, 35 PB14, 36 PB15, 37 PC6, 38 PC7, 39 PC8, 40 PC9, 41 PA8, 42 PA9, 43 PA10, 44 PA11, 45 PA12, 46 PA13, 47 VSS, 48 VDDUSB, 49 PA14, 50 PA15, 51 PC10, 52 PC11, 53 PC12, 54 PD2, 55 PB3, 56 PB4, 57 PB5, 58 PB6, 59 PB7, 60 PH3, 61 PB8, 62 VDD11, 63 VSS, 64 VDD

## STM32U575VGTx
designator *  value STM32U575VGTx  Reference: U
STMicroelectronics Arm Cortex-M33 MCU, 1024KB flash, 786KB RAM, 160 MHz, 1.71-3.6V, 82 GPIO, LQFP100; ki_keywords: Arm Cortex-M33 STM32U5 STM32U575/585; ki_fp_filters: LQFP*14x14mm*P0.5mm*; Footprint: Package_QFP:LQFP-100_14x14mm_P0.5mm; Datasheet: https://www.st.com/resource/en/datasheet/stm32u575vg.pdf; Description_: STMicroelectronics Arm Cortex-M33 MCU, 1024KB flash, 786KB RAM, 160 MHz, 1.71-3.6V, 82 GPIO, LQFP100
pins: 1 PE2, 2 PE3, 3 PE4, 4 PE5, 5 PE6, 6 VBAT, 7 PC13, 8 PC14, 9 PC15, 10 VSS, 11 VDD, 12 PH0, 13 PH1, 14 NRST, 15 PC0, 16 PC1, 17 PC2, 18 PC3, 19 VSSA, 20 VREF-, 21 VREF+, 22 VDDA, 23 PA0, 24 PA1, 25 PA2, 26 PA3, 27 VSS, 28 VDD, 29 PA4, 30 PA5, 31 PA6, 32 PA7, 33 PC4, 34 PC5, 35 PB0, 36 PB1, 37 PB2, 38 PE7, 39 PE8, 40 PE9, 41 PE10, 42 PE11, 43 PE12, 44 PE13, 45 PE14, 46 PE15, 47 PB10, 48 VCAP, 49 VSS, 50 VDD, 51 PB12, 52 PB13, 53 PB14, 54 PB15, 55 PD8, 56 PD9, 57 PD10, 58 PD11, 59 PD12, 60 PD13, 61 PD14, 62 PD15, 63 PC6, 64 PC7, 65 PC8, 66 PC9, 67 PA8, 68 PA9, 69 PA10, 70 PA11, 71 PA12, 72 PA13, 73 VDDUSB, 74 VSS, 75 VDD, 76 PA14, 77 PA15, 78 PC10, 79 PC11, 80 PC12, 81 PD0, 82 PD1, 83 PD2, 84 PD3, 85 PD4, 86 PD5, 87 PD6, 88 PD7, 89 PB3, 90 PB4, 91 PB5, 92 PB6, 93 PB7, 94 PH3, 95 PB8, 96 PB9, 97 PE0, 98 PE1, 99 VSS, 100 VDD

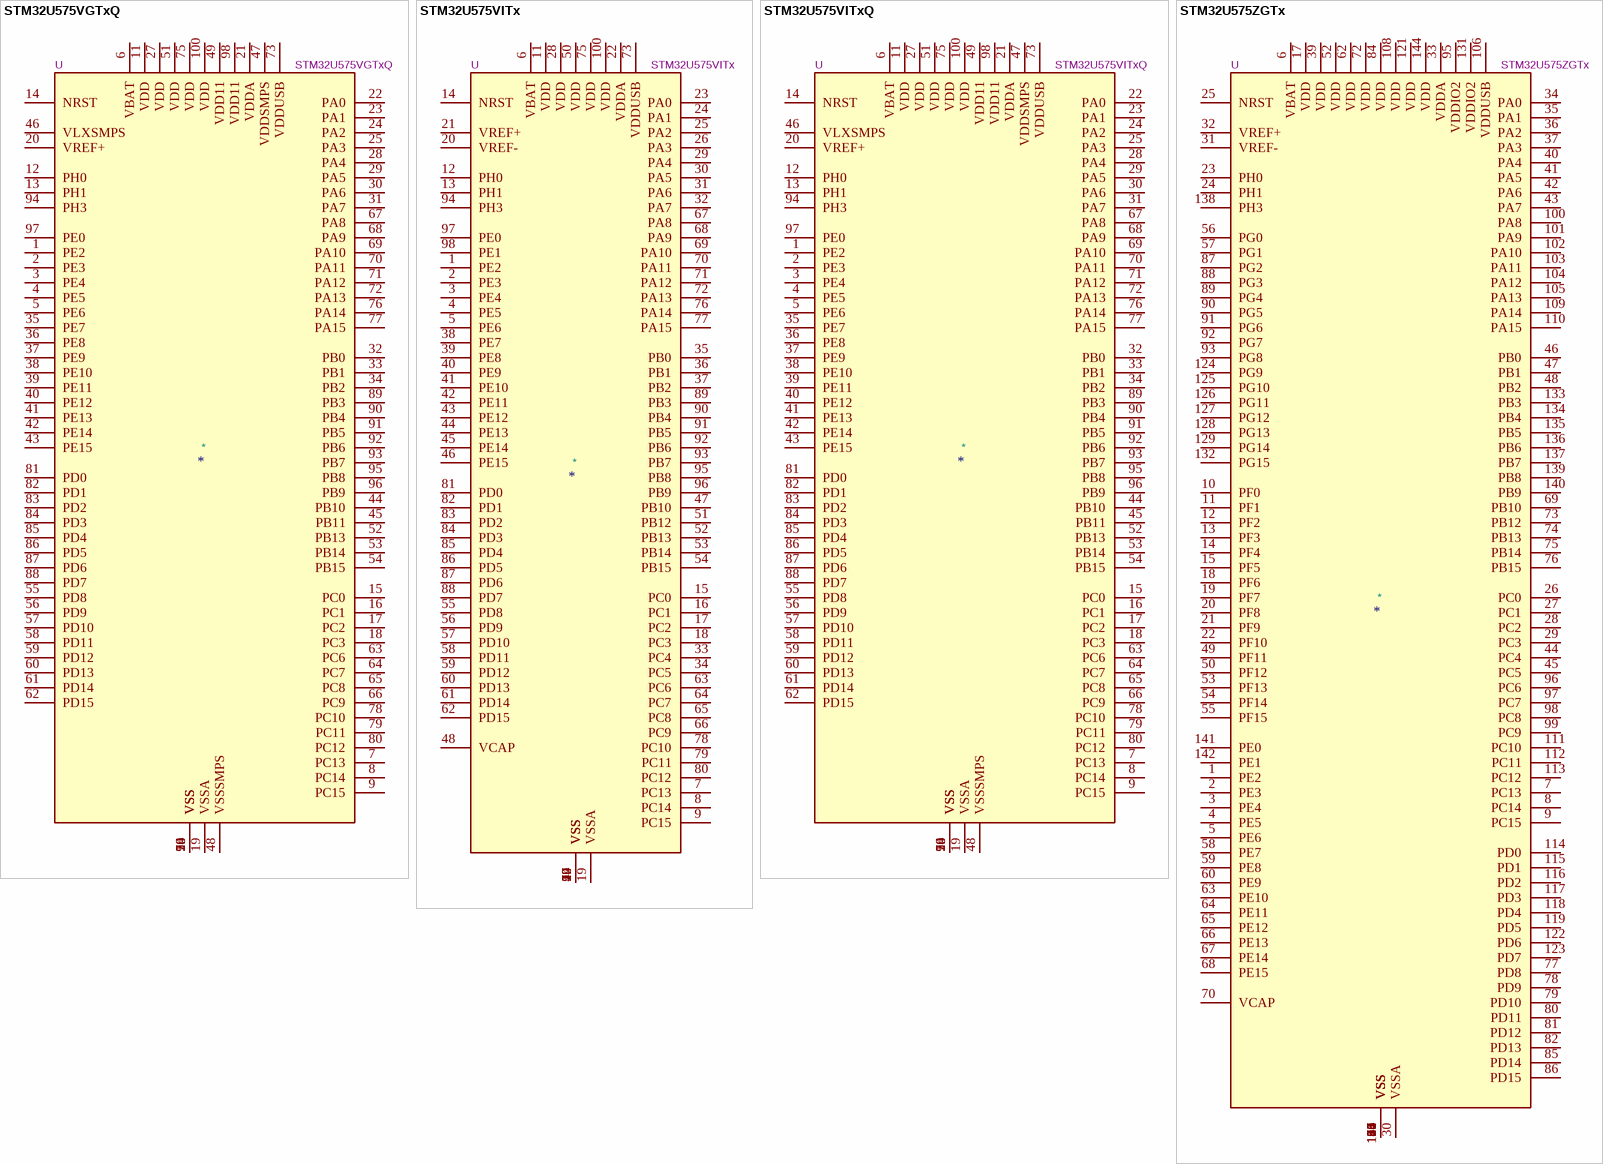
[diagram p24: symbols STM32U575VGTxQ to STM32U575ZGTx]

## STM32U575VGTxQ
designator *  value STM32U575VGTxQ  Reference: U
STMicroelectronics Arm Cortex-M33 MCU, 1024KB flash, 786KB RAM, 160 MHz, 1.71-3.6V, 79 GPIO, LQFP100; ki_keywords: Arm Cortex-M33 STM32U5 STM32U575/585; ki_fp_filters: LQFP*14x14mm*P0.5mm*; Footprint: Package_QFP:LQFP-100_14x14mm_P0.5mm; Datasheet: https://www.st.com/resource/en/datasheet/stm32u575vg.pdf; Description_: STMicroelectronics Arm Cortex-M33 MCU, 1024KB flash, 786KB RAM, 160 MHz, 1.71-3.6V, 79 GPIO, LQFP100
pins: 1 PE2, 2 PE3, 3 PE4, 4 PE5, 5 PE6, 6 VBAT, 7 PC13, 8 PC14, 9 PC15, 10 VSS, 11 VDD, 12 PH0, 13 PH1, 14 NRST, 15 PC0, 16 PC1, 17 PC2, 18 PC3, 19 VSSA, 20 VREF+, 21 VDDA, 22 PA0, 23 PA1, 24 PA2, 25 PA3, 26 VSS, 27 VDD, 28 PA4, 29 PA5, 30 PA6, 31 PA7, 32 PB0, 33 PB1, 34 PB2, 35 PE7, 36 PE8, 37 PE9, 38 PE10, 39 PE11, 40 PE12, 41 PE13, 42 PE14, 43 PE15, 44 PB10, 45 PB11, 46 VLXSMPS, 47 VDDSMPS, 48 VSSSMPS, 49 VDD11, 50 VSS, 51 VDD, 52 PB13, 53 PB14, 54 PB15, 55 PD8, 56 PD9, 57 PD10, 58 PD11, 59 PD12, 60 PD13, 61 PD14, 62 PD15, 63 PC6, 64 PC7, 65 PC8, 66 PC9, 67 PA8, 68 PA9, 69 PA10, 70 PA11, 71 PA12, 72 PA13, 73 VDDUSB, 74 VSS, 75 VDD, 76 PA14, 77 PA15, 78 PC10, 79 PC11, 80 PC12, 81 PD0, 82 PD1, 83 PD2, 84 PD3, 85 PD4, 86 PD5, 87 PD6, 88 PD7, 89 PB3, 90 PB4, 91 PB5, 92 PB6, 93 PB7, 94 PH3, 95 PB8, 96 PB9, 97 PE0, 98 VDD11, 99 VSS, 100 VDD

## STM32U575VITx
designator *  value STM32U575VITx  Reference: U
STMicroelectronics Arm Cortex-M33 MCU, 2048KB flash, 786KB RAM, 160 MHz, 1.71-3.6V, 82 GPIO, LQFP100; ki_keywords: Arm Cortex-M33 STM32U5 STM32U575/585; ki_fp_filters: LQFP*14x14mm*P0.5mm*; Footprint: Package_QFP:LQFP-100_14x14mm_P0.5mm; Datasheet: https://www.st.com/resource/en/datasheet/stm32u575vi.pdf; Description_: STMicroelectronics Arm Cortex-M33 MCU, 2048KB flash, 786KB RAM, 160 MHz, 1.71-3.6V, 82 GPIO, LQFP100
pins: 1 PE2, 2 PE3, 3 PE4, 4 PE5, 5 PE6, 6 VBAT, 7 PC13, 8 PC14, 9 PC15, 10 VSS, 11 VDD, 12 PH0, 13 PH1, 14 NRST, 15 PC0, 16 PC1, 17 PC2, 18 PC3, 19 VSSA, 20 VREF-, 21 VREF+, 22 VDDA, 23 PA0, 24 PA1, 25 PA2, 26 PA3, 27 VSS, 28 VDD, 29 PA4, 30 PA5, 31 PA6, 32 PA7, 33 PC4, 34 PC5, 35 PB0, 36 PB1, 37 PB2, 38 PE7, 39 PE8, 40 PE9, 41 PE10, 42 PE11, 43 PE12, 44 PE13, 45 PE14, 46 PE15, 47 PB10, 48 VCAP, 49 VSS, 50 VDD, 51 PB12, 52 PB13, 53 PB14, 54 PB15, 55 PD8, 56 PD9, 57 PD10, 58 PD11, 59 PD12, 60 PD13, 61 PD14, 62 PD15, 63 PC6, 64 PC7, 65 PC8, 66 PC9, 67 PA8, 68 PA9, 69 PA10, 70 PA11, 71 PA12, 72 PA13, 73 VDDUSB, 74 VSS, 75 VDD, 76 PA14, 77 PA15, 78 PC10, 79 PC11, 80 PC12, 81 PD0, 82 PD1, 83 PD2, 84 PD3, 85 PD4, 86 PD5, 87 PD6, 88 PD7, 89 PB3, 90 PB4, 91 PB5, 92 PB6, 93 PB7, 94 PH3, 95 PB8, 96 PB9, 97 PE0, 98 PE1, 99 VSS, 100 VDD

## STM32U575VITxQ
designator *  value STM32U575VITxQ  Reference: U
STMicroelectronics Arm Cortex-M33 MCU, 2048KB flash, 786KB RAM, 160 MHz, 1.71-3.6V, 79 GPIO, LQFP100; ki_keywords: Arm Cortex-M33 STM32U5 STM32U575/585; ki_fp_filters: LQFP*14x14mm*P0.5mm*; Footprint: Package_QFP:LQFP-100_14x14mm_P0.5mm; Datasheet: https://www.st.com/resource/en/datasheet/stm32u575vi.pdf; Description_: STMicroelectronics Arm Cortex-M33 MCU, 2048KB flash, 786KB RAM, 160 MHz, 1.71-3.6V, 79 GPIO, LQFP100
pins: 1 PE2, 2 PE3, 3 PE4, 4 PE5, 5 PE6, 6 VBAT, 7 PC13, 8 PC14, 9 PC15, 10 VSS, 11 VDD, 12 PH0, 13 PH1, 14 NRST, 15 PC0, 16 PC1, 17 PC2, 18 PC3, 19 VSSA, 20 VREF+, 21 VDDA, 22 PA0, 23 PA1, 24 PA2, 25 PA3, 26 VSS, 27 VDD, 28 PA4, 29 PA5, 30 PA6, 31 PA7, 32 PB0, 33 PB1, 34 PB2, 35 PE7, 36 PE8, 37 PE9, 38 PE10, 39 PE11, 40 PE12, 41 PE13, 42 PE14, 43 PE15, 44 PB10, 45 PB11, 46 VLXSMPS, 47 VDDSMPS, 48 VSSSMPS, 49 VDD11, 50 VSS, 51 VDD, 52 PB13, 53 PB14, 54 PB15, 55 PD8, 56 PD9, 57 PD10, 58 PD11, 59 PD12, 60 PD13, 61 PD14, 62 PD15, 63 PC6, 64 PC7, 65 PC8, 66 PC9, 67 PA8, 68 PA9, 69 PA10, 70 PA11, 71 PA12, 72 PA13, 73 VDDUSB, 74 VSS, 75 VDD, 76 PA14, 77 PA15, 78 PC10, 79 PC11, 80 PC12, 81 PD0, 82 PD1, 83 PD2, 84 PD3, 85 PD4, 86 PD5, 87 PD6, 88 PD7, 89 PB3, 90 PB4, 91 PB5, 92 PB6, 93 PB7, 94 PH3, 95 PB8, 96 PB9, 97 PE0, 98 VDD11, 99 VSS, 100 VDD